# Altium integrated library Altera APEX 20KE.IntLib: 235 symbols (part 2 of 49)
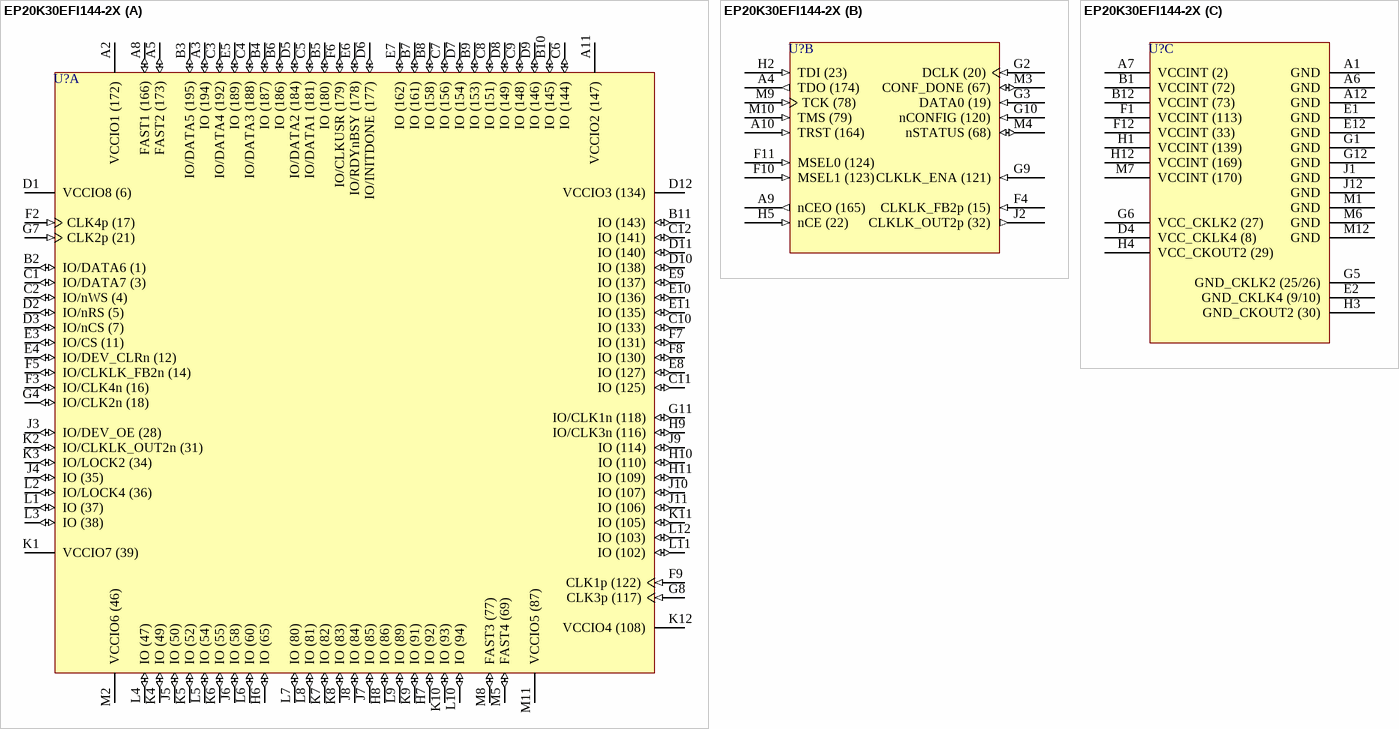
[diagram p400: symbol EP20K30EFI144-2X]

## EP20K30EFI144-2X
designator U?
APEX 20K30E PLD with PLLs and LVDS, 144-Pin FBGA, Industrial Grade, Speed Grade 2; Published: 17-Jul-2002; LatestRevisionDate: 13-Apr-2006; LatestRevisionNote: IPC-7351 Footprint Added.; DatasheetVersion: Mar-2004; PackageVersion: ver14.1, Oct-2005; PackageReference: FBGA144; Publisher: Altium Limited; PackageDescription: 144-Ball FineLine Ball Grid Array (FBGA144); Code_JEDEC: MO-192-AAD-1; Code_IPC: BGA100P12X12-144; ComponentLink1Description: Manufacturer Link; ComponentLink1URL: http://www.altera.com/products/devices/apex/apx-index.html; ComponentLink2Description: Datasheet; ComponentLink2URL: http://www.altera.com/literature/ds/apex.pdf
footprint FBGA144 (BGA, 144-Leads, Body 13x13mm, Pitch 1mm)
3D model EP20K30E-FBGA144 (144-Ball FineLine Ball Grid Array (FBGA144))
part A pins: A2 VCCIO1 (172) (power), A3 IO (194) (io), A5 FAST2 (173) (io), A8 FAST1 (166) (io), A11 VCCIO2 (147) (power), B2 IO/DATA6 (1) (io), B3 IO/DATA5 (195) (io), B4 IO (187) (io), B5 IO (180) (io), B6 IO (186) (io), B7 IO (161) (io), B8 IO (158) (io), B9 IO (153) (io), B10 IO (145) (io), B11 IO (143) (io), C1 IO/DATA7 (3) (io), C2 IO/nWS (4) (io), C3 IO/DATA4 (192) (io), C4 IO/DATA3 (188) (io), C5 IO/DATA1 (181) (io), C6 IO (144) (io), C7 IO (156) (io), C8 IO (151) (io), C9 IO (148) (io), C10 IO (133) (io), C11 IO (125) (io), C12 IO (141) (io), D1 VCCIO8 (6) (power), D2 IO/nRS (5) (io), D3 IO/nCS (7) (io), D5 IO/DATA2 (184) (io), D6 IO/INITDONE (177) (io), D7 IO (154) (io), D8 IO (149) (io), D9 IO (146) (io), D10 IO (138) (io), D11 IO (140) (io), D12 VCCIO3 (134) (power), E3 IO/CS (11) (io), E4 IO/DEV_CLRn (12) (io), E5 IO (189) (io), E6 IO/RDYnBSY (178) (io), E7 IO (162) (io), E8 IO (127) (io), E9 IO (137) (io), E10 IO (136) (io), E11 IO (135) (io), F2 CLK4p (17) (in), F3 IO/CLK4n (16) (io), F5 IO/CLKLK_FB2n (14) (io), F6 IO/CLKUSR (179) (io), F7 IO (131) (io), F8 IO (130) (io), F9 CLK1p (122) (in), G4 IO/CLK2n (18) (io), G7 CLK2p (21) (in), G8 CLK3p (117) (in), G11 IO/CLK1n (118) (io), H6 IO (65) (io), H7 IO (92) (io), H8 IO (86) (io), H9 IO/CLK3n (116) (io), H10 IO (110) (io), H11 IO (109) (io), J3 IO/DEV_OE (28) (io), J4 IO (35) (io), J5 IO (50) (io), J6 IO (58) (io), J7 IO (85) (io), J8 IO (84) (io), J9 IO (114) (io), J10 IO (107) (io), J11 IO (106) (io), K1 VCCIO7 (39) (power), K2 IO/CLKLK_OUT2n (31) (io), K3 IO/LOCK2 (34) (io), K4 IO (49) (io), K5 IO (52) (io), K6 IO (55) (io), K7 IO (82) (io), K8 IO (83) (io), K9 IO (91) (io), K10 IO (93) (io), K11 IO (105) (io), K12 VCCIO4 (108) (power), L1 IO (37) (io), L2 IO/LOCK4 (36) (io), L3 IO (38) (io), L4 IO (47) (io), L5 IO (54) (io), L6 IO (60) (io), L7 IO (80) (io), L8 IO (81) (io), L9 IO (89) (io), L10 IO (94) (io), L11 IO (102) (io), L12 IO (103) (io), M2 VCCIO6 (46) (power), M5 FAST4 (69) (io), M8 FAST3 (77) (io), M11 VCCIO5 (87) (power)
part B pins: A4 TDO (174) (out), A9 nCEO (165) (out), A10 TRST (164) (in), F4 CLKLK_FB2p (15) (in), F10 MSEL1 (123) (in), F11 MSEL0 (124) (in), G2 DCLK (20) (in), G3 DATA0 (19) (in), G9 CLKLK_ENA (121) (in), G10 nCONFIG (120) (in), H2 TDI (23) (in), H5 nCE (22) (in), J2 CLKLK_OUT2p (32) (out), M3 CONF_DONE (67) (io), M4 nSTATUS (68) (io), M9 TCK (78) (in), M10 TMS (79) (in)
part C pins: A1 GND (power), A6 GND (power), A7 VCCINT (2) (power), A12 GND (power), B1 VCCINT (72) (power), B12 VCCINT (73) (power), D4 VCC_CKLK4 (8) (power), E1 GND (power), E2 GND_CKLK4 (9/10) (power), E12 GND (power), F1 VCCINT (113) (power), F12 VCCINT (33) (power), G1 GND (power), G5 GND_CKLK2 (25/26) (power), G6 VCC_CKLK2 (27) (power), G12 GND (power), H1 VCCINT (139) (power), H3 GND_CKOUT2 (30) (power), H4 VCC_CKOUT2 (29) (power), H12 VCCINT (169) (power), J1 GND (power), J12 GND (power), M1 GND (power), M6 GND (power), M7 VCCINT (170) (power), M12 GND (power)

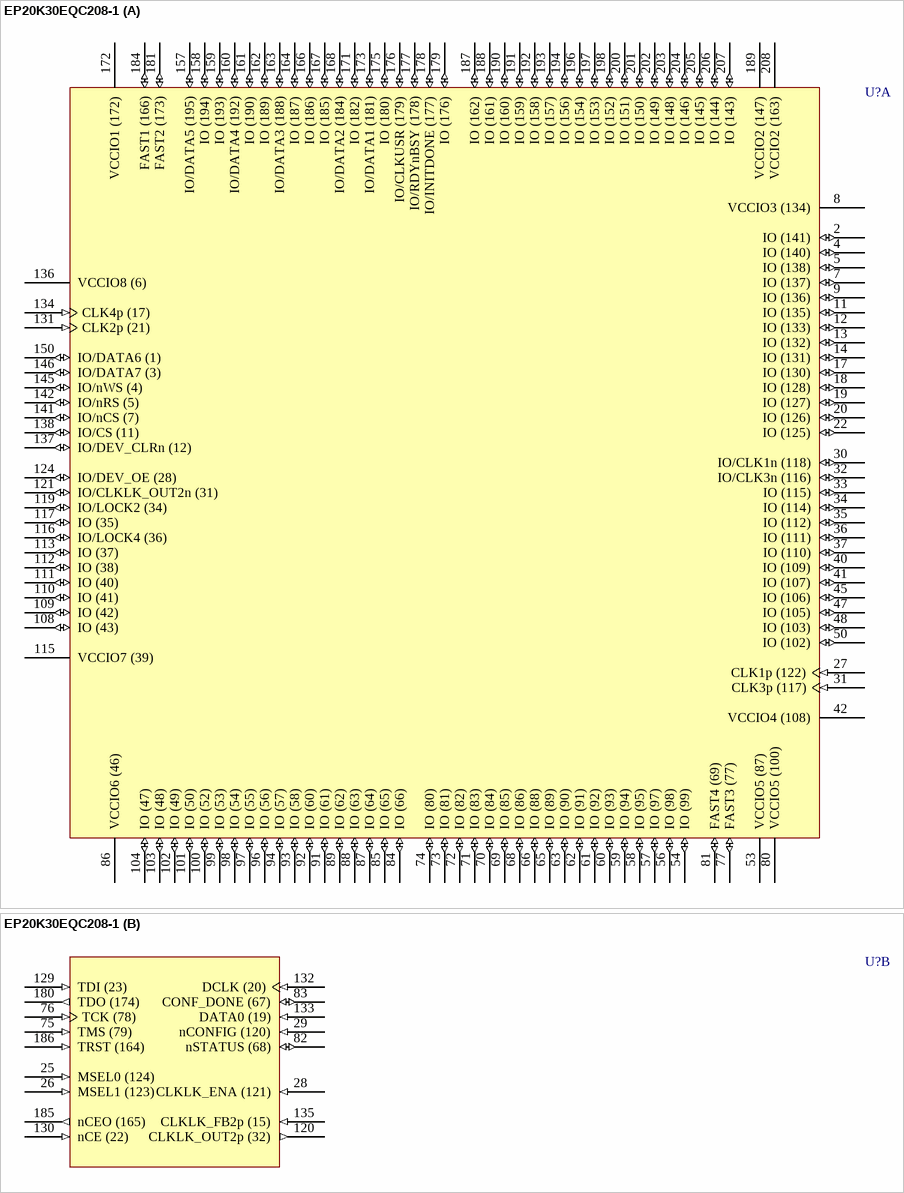
[diagram p14: symbol EP20K30EQC208-1]

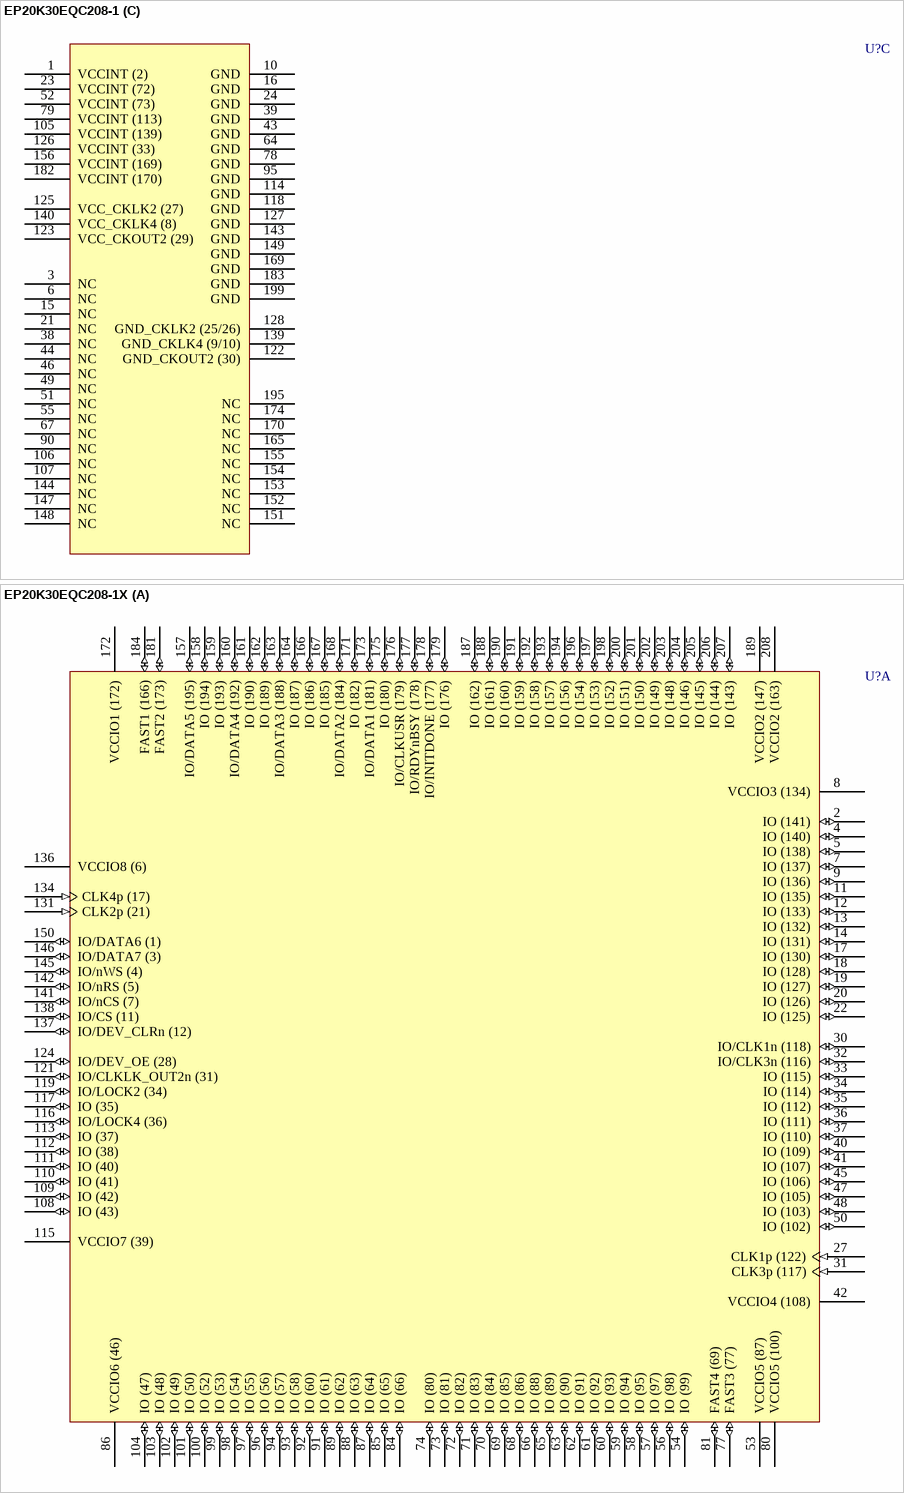
[diagram p15: symbols EP20K30EQC208-1 to EP20K30EQC208-1X]

## EP20K30EQC208-1
designator U?
APEX 20K30E PLD, 208-Pin PQFP, Commercial Grade, Speed Grade 1; Published: 17-Jul-2002; LatestRevisionDate: 13-Apr-2006; LatestRevisionNote: IPC-7351 Footprint Added.; DatasheetVersion: Mar-2004; PackageVersion: ver14.1, Oct-2005; PackageReference: PQFP208; Publisher: Altium Limited; PackageDescription: 208-Pin Plastic Quad Flat Pack (PQFP208); Code_JEDEC: MS-029-FA-1; ComponentLink1Description: Manufacturer Link; ComponentLink1URL: http://www.altera.com/products/devices/apex/apx-index.html; ComponentLink2Description: Datasheet; ComponentLink2URL: http://www.altera.com/literature/ds/apex.pdf; ComponentLink3Description: Discontinuation Notice; ComponentLink3URL: http://www.altera.com/literature/pcn/pdn0316.pdf
footprint PQFP208_N (Shrink QFP, 208-Leads, Body 28x28mm, Pitch 0.5mm, IPC Medium Density)
footprint PQFP208_L (Shrink QFP, 208-Leads, Body 28x28mm, Pitch 0.5mm, IPC High Density)
footprint PQFP208_M (Shrink QFP, 208-Leads, Body 28x28mm, Pitch 0.5mm, IPC Low Density)
3D model EP20K30E-PQFP208 (208-Pin Plastic Quad Flat Pack (PQFP208))
part A pins: 2 IO (141) (io), 4 IO (140) (io), 5 IO (138) (io), 7 IO (137) (io), 8 VCCIO3 (134) (power), 9 IO (136) (io), 11 IO (135) (io), 12 IO (133) (io), 13 IO (132) (io), 14 IO (131) (io), 17 IO (130) (io), 18 IO (128) (io), 19 IO (127) (io), 20 IO (126) (io), 22 IO (125) (io), 27 CLK1p (122) (in), 30 IO/CLK1n (118) (io), 31 CLK3p (117) (in), 32 IO/CLK3n (116) (io), 33 IO (115) (io), 34 IO (114) (io), 35 IO (112) (io), 36 IO (111) (io), 37 IO (110) (io), 40 IO (109) (io), 41 IO (107) (io), 42 VCCIO4 (108) (power), 45 IO (106) (io), 47 IO (105) (io), 48 IO (103) (io), 50 IO (102) (io), 53 VCCIO5 (87) (power), 54 IO (99) (io), 56 IO (98) (io), 57 IO (97) (io), 58 IO (95) (io), 59 IO (94) (io), 60 IO (93) (io), 61 IO (92) (io), 62 IO (91) (io), 63 IO (90) (io), 65 IO (89) (io), 66 IO (88) (io), 68 IO (86) (io), 69 IO (85) (io), 70 IO (84) (io), 71 IO (83) (io), 72 IO (82) (io), 73 IO (81) (io), 74 IO (80) (io), 77 FAST3 (77) (io), 80 VCCIO5 (100) (power), 81 FAST4 (69) (io), 84 IO (66) (io), 85 IO (65) (io), 86 VCCIO6 (46) (power), 87 IO (64) (io), 88 IO (63) (io), 89 IO (62) (io), 91 IO (61) (io), 92 IO (60) (io), 93 IO (58) (io), 94 IO (57) (io), 96 IO (56) (io), 97 IO (55) (io), 98 IO (54) (io), 99 IO (53) (io), 100 IO (52) (io), 101 IO (50) (io), 102 IO (49) (io), 103 IO (48) (io), 104 IO (47) (io), 108 IO (43) (io), 109 IO (42) (io), 110 IO (41) (io), 111 IO (40) (io), 112 IO (38) (io), 113 IO (37) (io), 115 VCCIO7 (39) (power), 116 IO/LOCK4 (36) (io), 117 IO (35) (io), 119 IO/LOCK2 (34) (io), 121 IO/CLKLK_OUT2n (31) (io), 124 IO/DEV_OE (28) (io), 131 CLK2p (21) (in), 134 CLK4p (17) (in), 136 VCCIO8 (6) (power), 137 IO/DEV_CLRn (12) (io), 138 IO/CS (11) (io), 141 IO/nCS (7) (io), 142 IO/nRS (5) (io), 145 IO/nWS (4) (io), 146 IO/DATA7 (3) (io), 150 IO/DATA6 (1) (io), 157 IO/DATA5 (195) (io), 158 IO (194) (io), 159 IO (193) (io), 160 IO/DATA4 (192) (io), 161 IO (190) (io), 162 IO (189) (io), 163 IO/DATA3 (188) (io), 164 IO (187) (io), 166 IO (186) (io), 167 IO (185) (io), 168 IO/DATA2 (184) (io), 171 IO (182) (io), 172 VCCIO1 (172) (power), 173 IO/DATA1 (181) (io), 175 IO (180) (io), 176 IO/CLKUSR (179) (io), 177 IO/RDYnBSY (178) (io), 178 IO/INITDONE (177) (io), 179 IO (176) (io), 181 FAST2 (173) (io), 184 FAST1 (166) (io), 187 IO (162) (io), 188 IO (161) (io), 189 VCCIO2 (147) (power), 190 IO (160) (io), 191 IO (159) (io), 192 IO (158) (io), 193 IO (157) (io), 194 IO (156) (io), 196 IO (154) (io), 197 IO (153) (io), 198 IO (152) (io), 200 IO (151) (io), 201 IO (150) (io), 202 IO (149) (io), 203 IO (148) (io), 204 IO (146) (io), 205 IO (145) (io), 206 IO (144) (io), 207 IO (143) (io), 208 VCCIO2 (163) (power)
part B pins: 25 MSEL0 (124) (in), 26 MSEL1 (123) (in), 28 CLKLK_ENA (121) (in), 29 nCONFIG (120) (in), 75 TMS (79) (in), 76 TCK (78) (in), 82 nSTATUS (68) (io), 83 CONF_DONE (67) (io), 120 CLKLK_OUT2p (32) (out), 129 TDI (23) (in), 130 nCE (22) (in), 132 DCLK (20) (in), 133 DATA0 (19) (in), 135 CLKLK_FB2p (15) (in), 180 TDO (174) (out), 185 nCEO (165) (out), 186 TRST (164) (in)
part C pins: 1 VCCINT (2) (power), 3 NC, 6 NC, 10 GND (power), 15 NC, 16 GND (power), 21 NC, 23 VCCINT (72) (power), 24 GND (power), 38 NC, 39 GND (power), 43 GND (power), 44 NC, 46 NC, 49 NC, 51 NC, 52 VCCINT (73) (power), 55 NC, 64 GND (power), 67 NC, 78 GND (power), 79 VCCINT (113) (power), 90 NC, 95 GND (power), 105 VCCINT (139) (power), 106 NC, 107 NC, 114 GND (power), 118 GND (power), 122 GND_CKOUT2 (30) (power), 123 VCC_CKOUT2 (29) (power), 125 VCC_CKLK2 (27) (power), 126 VCCINT (33) (power), 127 GND (power), 128 GND_CKLK2 (25/26) (power), 139 GND_CKLK4 (9/10) (power), 140 VCC_CKLK4 (8) (power), 143 GND (power), 144 NC, 147 NC, 148 NC, 149 GND (power), 151 NC, 152 NC, 153 NC, 154 NC, 155 NC, 156 VCCINT (169) (power), 165 NC, 169 GND (power), 170 NC, 174 NC, 182 VCCINT (170) (power), 183 GND (power), 195 NC, 199 GND (power)

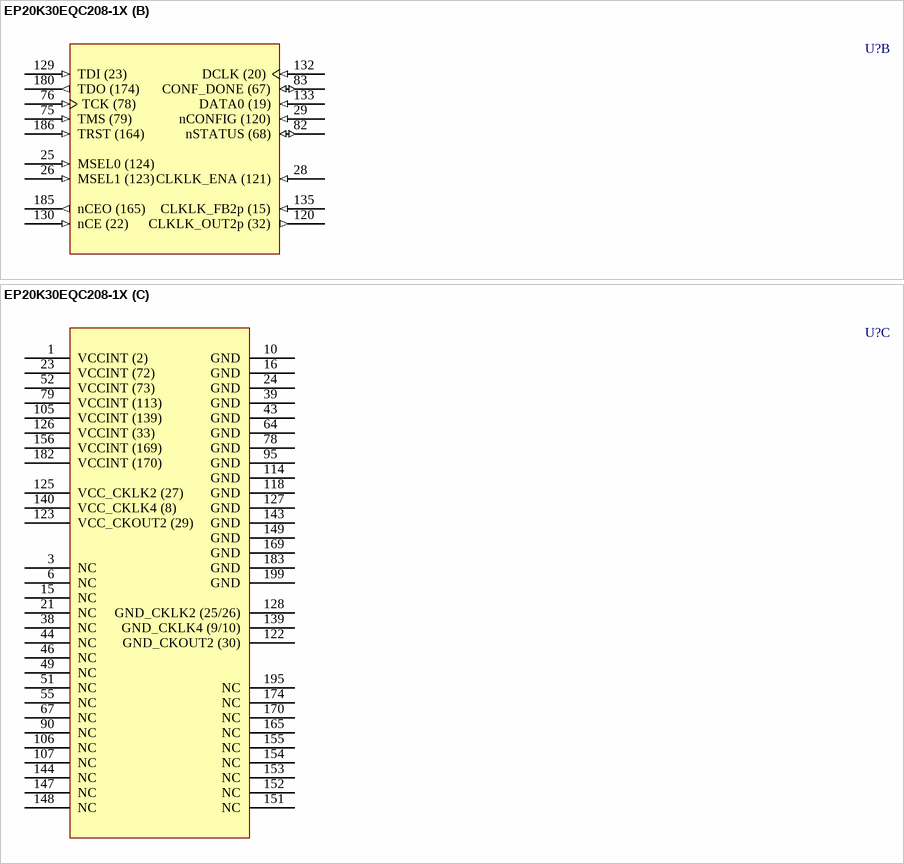
[diagram p16: symbol EP20K30EQC208-1X]

## EP20K30EQC208-1X
designator U?
APEX 20K30E PLD with PLLs and LVDS, 208-Pin PQFP, Commercial Grade, Speed Grade 1; Published: 17-Jul-2002; LatestRevisionDate: 13-Apr-2006; LatestRevisionNote: IPC-7351 Footprint Added.; DatasheetVersion: Mar-2004; PackageVersion: ver14.1, Oct-2005; PackageReference: PQFP208; Publisher: Altium Limited; PackageDescription: 208-Pin Plastic Quad Flat Pack (PQFP208); Code_JEDEC: MS-029-FA-1; ComponentLink1Description: Manufacturer Link; ComponentLink1URL: http://www.altera.com/products/devices/apex/apx-index.html; ComponentLink2Description: Datasheet; ComponentLink2URL: http://www.altera.com/literature/ds/apex.pdf; ComponentLink3Description: Discontinuation Notice; ComponentLink3URL: http://www.altera.com/literature/pcn/pdn0316.pdf
footprint PQFP208_N (Shrink QFP, 208-Leads, Body 28x28mm, Pitch 0.5mm, IPC Medium Density)
footprint PQFP208_L (Shrink QFP, 208-Leads, Body 28x28mm, Pitch 0.5mm, IPC High Density)
footprint PQFP208_M (Shrink QFP, 208-Leads, Body 28x28mm, Pitch 0.5mm, IPC Low Density)
3D model EP20K30E-PQFP208 (208-Pin Plastic Quad Flat Pack (PQFP208))
part A pins: 2 IO (141) (io), 4 IO (140) (io), 5 IO (138) (io), 7 IO (137) (io), 8 VCCIO3 (134) (power), 9 IO (136) (io), 11 IO (135) (io), 12 IO (133) (io), 13 IO (132) (io), 14 IO (131) (io), 17 IO (130) (io), 18 IO (128) (io), 19 IO (127) (io), 20 IO (126) (io), 22 IO (125) (io), 27 CLK1p (122) (in), 30 IO/CLK1n (118) (io), 31 CLK3p (117) (in), 32 IO/CLK3n (116) (io), 33 IO (115) (io), 34 IO (114) (io), 35 IO (112) (io), 36 IO (111) (io), 37 IO (110) (io), 40 IO (109) (io), 41 IO (107) (io), 42 VCCIO4 (108) (power), 45 IO (106) (io), 47 IO (105) (io), 48 IO (103) (io), 50 IO (102) (io), 53 VCCIO5 (87) (power), 54 IO (99) (io), 56 IO (98) (io), 57 IO (97) (io), 58 IO (95) (io), 59 IO (94) (io), 60 IO (93) (io), 61 IO (92) (io), 62 IO (91) (io), 63 IO (90) (io), 65 IO (89) (io), 66 IO (88) (io), 68 IO (86) (io), 69 IO (85) (io), 70 IO (84) (io), 71 IO (83) (io), 72 IO (82) (io), 73 IO (81) (io), 74 IO (80) (io), 77 FAST3 (77) (io), 80 VCCIO5 (100) (power), 81 FAST4 (69) (io), 84 IO (66) (io), 85 IO (65) (io), 86 VCCIO6 (46) (power), 87 IO (64) (io), 88 IO (63) (io), 89 IO (62) (io), 91 IO (61) (io), 92 IO (60) (io), 93 IO (58) (io), 94 IO (57) (io), 96 IO (56) (io), 97 IO (55) (io), 98 IO (54) (io), 99 IO (53) (io), 100 IO (52) (io), 101 IO (50) (io), 102 IO (49) (io), 103 IO (48) (io), 104 IO (47) (io), 108 IO (43) (io), 109 IO (42) (io), 110 IO (41) (io), 111 IO (40) (io), 112 IO (38) (io), 113 IO (37) (io), 115 VCCIO7 (39) (power), 116 IO/LOCK4 (36) (io), 117 IO (35) (io), 119 IO/LOCK2 (34) (io), 121 IO/CLKLK_OUT2n (31) (io), 124 IO/DEV_OE (28) (io), 131 CLK2p (21) (in), 134 CLK4p (17) (in), 136 VCCIO8 (6) (power), 137 IO/DEV_CLRn (12) (io), 138 IO/CS (11) (io), 141 IO/nCS (7) (io), 142 IO/nRS (5) (io), 145 IO/nWS (4) (io), 146 IO/DATA7 (3) (io), 150 IO/DATA6 (1) (io), 157 IO/DATA5 (195) (io), 158 IO (194) (io), 159 IO (193) (io), 160 IO/DATA4 (192) (io), 161 IO (190) (io), 162 IO (189) (io), 163 IO/DATA3 (188) (io), 164 IO (187) (io), 166 IO (186) (io), 167 IO (185) (io), 168 IO/DATA2 (184) (io), 171 IO (182) (io), 172 VCCIO1 (172) (power), 173 IO/DATA1 (181) (io), 175 IO (180) (io), 176 IO/CLKUSR (179) (io), 177 IO/RDYnBSY (178) (io), 178 IO/INITDONE (177) (io), 179 IO (176) (io), 181 FAST2 (173) (io), 184 FAST1 (166) (io), 187 IO (162) (io), 188 IO (161) (io), 189 VCCIO2 (147) (power), 190 IO (160) (io), 191 IO (159) (io), 192 IO (158) (io), 193 IO (157) (io), 194 IO (156) (io), 196 IO (154) (io), 197 IO (153) (io), 198 IO (152) (io), 200 IO (151) (io), 201 IO (150) (io), 202 IO (149) (io), 203 IO (148) (io), 204 IO (146) (io), 205 IO (145) (io), 206 IO (144) (io), 207 IO (143) (io), 208 VCCIO2 (163) (power)
part B pins: 25 MSEL0 (124) (in), 26 MSEL1 (123) (in), 28 CLKLK_ENA (121) (in), 29 nCONFIG (120) (in), 75 TMS (79) (in), 76 TCK (78) (in), 82 nSTATUS (68) (io), 83 CONF_DONE (67) (io), 120 CLKLK_OUT2p (32) (out), 129 TDI (23) (in), 130 nCE (22) (in), 132 DCLK (20) (in), 133 DATA0 (19) (in), 135 CLKLK_FB2p (15) (in), 180 TDO (174) (out), 185 nCEO (165) (out), 186 TRST (164) (in)
part C pins: 1 VCCINT (2) (power), 3 NC, 6 NC, 10 GND (power), 15 NC, 16 GND (power), 21 NC, 23 VCCINT (72) (power), 24 GND (power), 38 NC, 39 GND (power), 43 GND (power), 44 NC, 46 NC, 49 NC, 51 NC, 52 VCCINT (73) (power), 55 NC, 64 GND (power), 67 NC, 78 GND (power), 79 VCCINT (113) (power), 90 NC, 95 GND (power), 105 VCCINT (139) (power), 106 NC, 107 NC, 114 GND (power), 118 GND (power), 122 GND_CKOUT2 (30) (power), 123 VCC_CKOUT2 (29) (power), 125 VCC_CKLK2 (27) (power), 126 VCCINT (33) (power), 127 GND (power), 128 GND_CKLK2 (25/26) (power), 139 GND_CKLK4 (9/10) (power), 140 VCC_CKLK4 (8) (power), 143 GND (power), 144 NC, 147 NC, 148 NC, 149 GND (power), 151 NC, 152 NC, 153 NC, 154 NC, 155 NC, 156 VCCINT (169) (power), 165 NC, 169 GND (power), 170 NC, 174 NC, 182 VCCINT (170) (power), 183 GND (power), 195 NC, 199 GND (power)

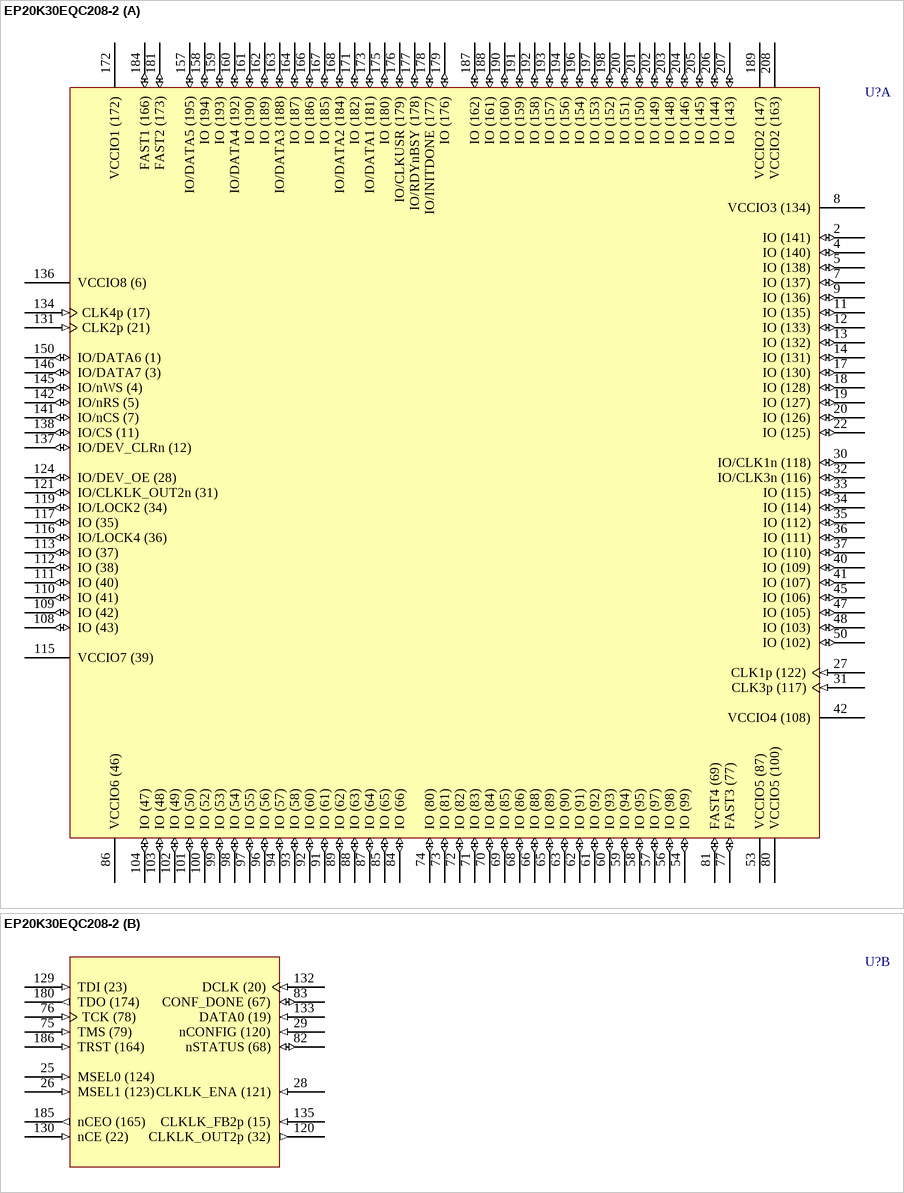
[diagram p17: symbol EP20K30EQC208-2]

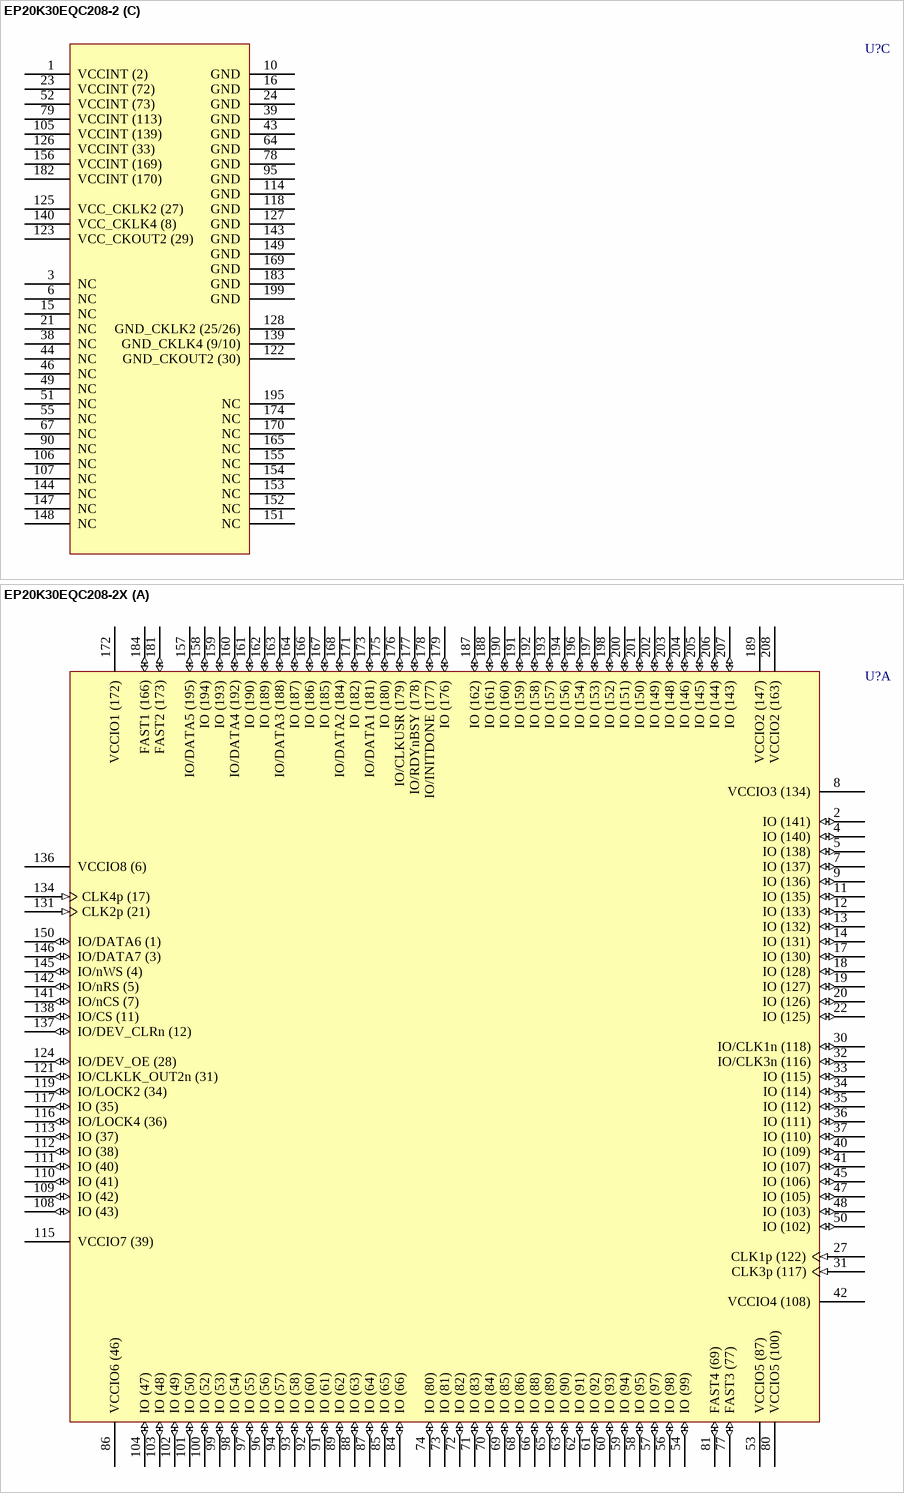
[diagram p18: symbols EP20K30EQC208-2 to EP20K30EQC208-2X]

## EP20K30EQC208-2
designator U?
APEX 20K30E PLD, 208-Pin PQFP, Commercial Grade, Speed Grade 2; Published: 17-Jul-2002; LatestRevisionDate: 13-Apr-2006; LatestRevisionNote: IPC-7351 Footprint Added.; DatasheetVersion: Mar-2004; PackageVersion: ver14.1, Oct-2005; PackageReference: PQFP208; Publisher: Altium Limited; PackageDescription: 208-Pin Plastic Quad Flat Pack (PQFP208); Code_JEDEC: MS-029-FA-1; ComponentLink1Description: Manufacturer Link; ComponentLink1URL: http://www.altera.com/products/devices/apex/apx-index.html; ComponentLink2Description: Datasheet; ComponentLink2URL: http://www.altera.com/literature/ds/apex.pdf; ComponentLink3Description: Discontinuation Notice; ComponentLink3URL: http://www.altera.com/literature/pcn/pdn0316.pdf
footprint PQFP208_N (Shrink QFP, 208-Leads, Body 28x28mm, Pitch 0.5mm, IPC Medium Density)
footprint PQFP208_L (Shrink QFP, 208-Leads, Body 28x28mm, Pitch 0.5mm, IPC High Density)
footprint PQFP208_M (Shrink QFP, 208-Leads, Body 28x28mm, Pitch 0.5mm, IPC Low Density)
3D model EP20K30E-PQFP208 (208-Pin Plastic Quad Flat Pack (PQFP208))
part A pins: 2 IO (141) (io), 4 IO (140) (io), 5 IO (138) (io), 7 IO (137) (io), 8 VCCIO3 (134) (power), 9 IO (136) (io), 11 IO (135) (io), 12 IO (133) (io), 13 IO (132) (io), 14 IO (131) (io), 17 IO (130) (io), 18 IO (128) (io), 19 IO (127) (io), 20 IO (126) (io), 22 IO (125) (io), 27 CLK1p (122) (in), 30 IO/CLK1n (118) (io), 31 CLK3p (117) (in), 32 IO/CLK3n (116) (io), 33 IO (115) (io), 34 IO (114) (io), 35 IO (112) (io), 36 IO (111) (io), 37 IO (110) (io), 40 IO (109) (io), 41 IO (107) (io), 42 VCCIO4 (108) (power), 45 IO (106) (io), 47 IO (105) (io), 48 IO (103) (io), 50 IO (102) (io), 53 VCCIO5 (87) (power), 54 IO (99) (io), 56 IO (98) (io), 57 IO (97) (io), 58 IO (95) (io), 59 IO (94) (io), 60 IO (93) (io), 61 IO (92) (io), 62 IO (91) (io), 63 IO (90) (io), 65 IO (89) (io), 66 IO (88) (io), 68 IO (86) (io), 69 IO (85) (io), 70 IO (84) (io), 71 IO (83) (io), 72 IO (82) (io), 73 IO (81) (io), 74 IO (80) (io), 77 FAST3 (77) (io), 80 VCCIO5 (100) (power), 81 FAST4 (69) (io), 84 IO (66) (io), 85 IO (65) (io), 86 VCCIO6 (46) (power), 87 IO (64) (io), 88 IO (63) (io), 89 IO (62) (io), 91 IO (61) (io), 92 IO (60) (io), 93 IO (58) (io), 94 IO (57) (io), 96 IO (56) (io), 97 IO (55) (io), 98 IO (54) (io), 99 IO (53) (io), 100 IO (52) (io), 101 IO (50) (io), 102 IO (49) (io), 103 IO (48) (io), 104 IO (47) (io), 108 IO (43) (io), 109 IO (42) (io), 110 IO (41) (io), 111 IO (40) (io), 112 IO (38) (io), 113 IO (37) (io), 115 VCCIO7 (39) (power), 116 IO/LOCK4 (36) (io), 117 IO (35) (io), 119 IO/LOCK2 (34) (io), 121 IO/CLKLK_OUT2n (31) (io), 124 IO/DEV_OE (28) (io), 131 CLK2p (21) (in), 134 CLK4p (17) (in), 136 VCCIO8 (6) (power), 137 IO/DEV_CLRn (12) (io), 138 IO/CS (11) (io), 141 IO/nCS (7) (io), 142 IO/nRS (5) (io), 145 IO/nWS (4) (io), 146 IO/DATA7 (3) (io), 150 IO/DATA6 (1) (io), 157 IO/DATA5 (195) (io), 158 IO (194) (io), 159 IO (193) (io), 160 IO/DATA4 (192) (io), 161 IO (190) (io), 162 IO (189) (io), 163 IO/DATA3 (188) (io), 164 IO (187) (io), 166 IO (186) (io), 167 IO (185) (io), 168 IO/DATA2 (184) (io), 171 IO (182) (io), 172 VCCIO1 (172) (power), 173 IO/DATA1 (181) (io), 175 IO (180) (io), 176 IO/CLKUSR (179) (io), 177 IO/RDYnBSY (178) (io), 178 IO/INITDONE (177) (io), 179 IO (176) (io), 181 FAST2 (173) (io), 184 FAST1 (166) (io), 187 IO (162) (io), 188 IO (161) (io), 189 VCCIO2 (147) (power), 190 IO (160) (io), 191 IO (159) (io), 192 IO (158) (io), 193 IO (157) (io), 194 IO (156) (io), 196 IO (154) (io), 197 IO (153) (io), 198 IO (152) (io), 200 IO (151) (io), 201 IO (150) (io), 202 IO (149) (io), 203 IO (148) (io), 204 IO (146) (io), 205 IO (145) (io), 206 IO (144) (io), 207 IO (143) (io), 208 VCCIO2 (163) (power)
part B pins: 25 MSEL0 (124) (in), 26 MSEL1 (123) (in), 28 CLKLK_ENA (121) (in), 29 nCONFIG (120) (in), 75 TMS (79) (in), 76 TCK (78) (in), 82 nSTATUS (68) (io), 83 CONF_DONE (67) (io), 120 CLKLK_OUT2p (32) (out), 129 TDI (23) (in), 130 nCE (22) (in), 132 DCLK (20) (in), 133 DATA0 (19) (in), 135 CLKLK_FB2p (15) (in), 180 TDO (174) (out), 185 nCEO (165) (out), 186 TRST (164) (in)
part C pins: 1 VCCINT (2) (power), 3 NC, 6 NC, 10 GND (power), 15 NC, 16 GND (power), 21 NC, 23 VCCINT (72) (power), 24 GND (power), 38 NC, 39 GND (power), 43 GND (power), 44 NC, 46 NC, 49 NC, 51 NC, 52 VCCINT (73) (power), 55 NC, 64 GND (power), 67 NC, 78 GND (power), 79 VCCINT (113) (power), 90 NC, 95 GND (power), 105 VCCINT (139) (power), 106 NC, 107 NC, 114 GND (power), 118 GND (power), 122 GND_CKOUT2 (30) (power), 123 VCC_CKOUT2 (29) (power), 125 VCC_CKLK2 (27) (power), 126 VCCINT (33) (power), 127 GND (power), 128 GND_CKLK2 (25/26) (power), 139 GND_CKLK4 (9/10) (power), 140 VCC_CKLK4 (8) (power), 143 GND (power), 144 NC, 147 NC, 148 NC, 149 GND (power), 151 NC, 152 NC, 153 NC, 154 NC, 155 NC, 156 VCCINT (169) (power), 165 NC, 169 GND (power), 170 NC, 174 NC, 182 VCCINT (170) (power), 183 GND (power), 195 NC, 199 GND (power)

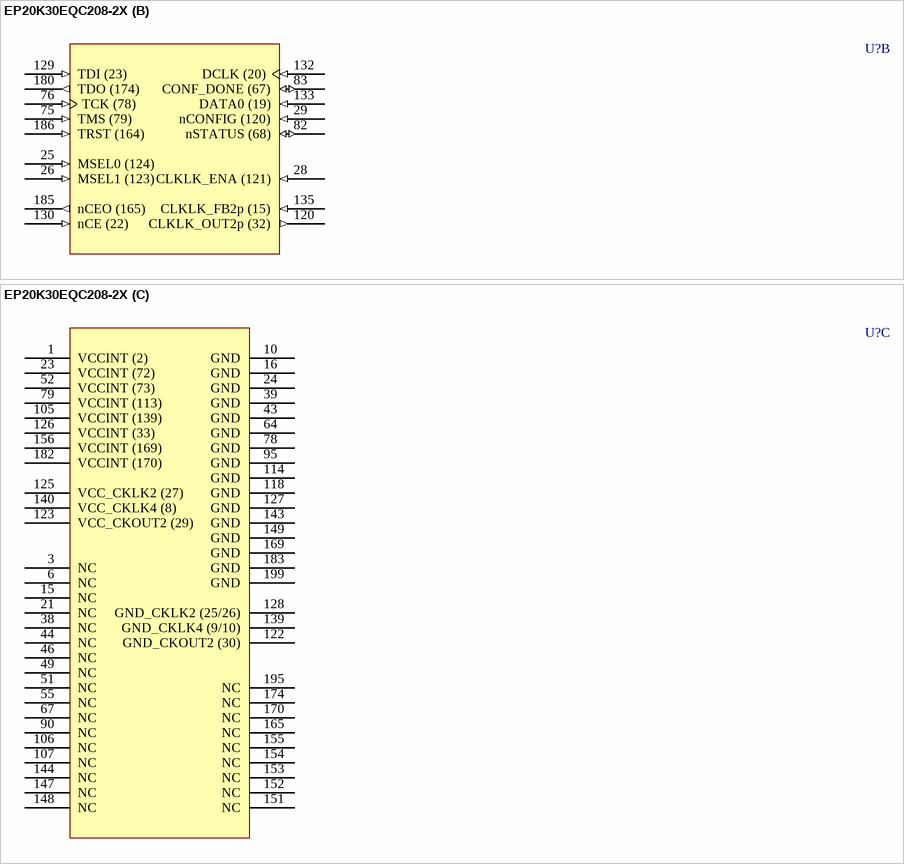
[diagram p19: symbol EP20K30EQC208-2X]

## EP20K30EQC208-2X
designator U?
APEX 20K30E PLD with PLLs and LVDS, 208-Pin PQFP, Commercial Grade, Speed Grade 2; Published: 17-Jul-2002; LatestRevisionDate: 13-Apr-2006; LatestRevisionNote: IPC-7351 Footprint Added.; DatasheetVersion: Mar-2004; PackageVersion: ver14.1, Oct-2005; PackageReference: PQFP208; Publisher: Altium Limited; PackageDescription: 208-Pin Plastic Quad Flat Pack (PQFP208); Code_JEDEC: MS-029-FA-1; ComponentLink1Description: Manufacturer Link; ComponentLink1URL: http://www.altera.com/products/devices/apex/apx-index.html; ComponentLink2Description: Datasheet; ComponentLink2URL: http://www.altera.com/literature/ds/apex.pdf; ComponentLink3Description: Discontinuation Notice; ComponentLink3URL: http://www.altera.com/literature/pcn/pdn0316.pdf
footprint PQFP208_N (Shrink QFP, 208-Leads, Body 28x28mm, Pitch 0.5mm, IPC Medium Density)
footprint PQFP208_L (Shrink QFP, 208-Leads, Body 28x28mm, Pitch 0.5mm, IPC High Density)
footprint PQFP208_M (Shrink QFP, 208-Leads, Body 28x28mm, Pitch 0.5mm, IPC Low Density)
3D model EP20K30E-PQFP208 (208-Pin Plastic Quad Flat Pack (PQFP208))
part A pins: 2 IO (141) (io), 4 IO (140) (io), 5 IO (138) (io), 7 IO (137) (io), 8 VCCIO3 (134) (power), 9 IO (136) (io), 11 IO (135) (io), 12 IO (133) (io), 13 IO (132) (io), 14 IO (131) (io), 17 IO (130) (io), 18 IO (128) (io), 19 IO (127) (io), 20 IO (126) (io), 22 IO (125) (io), 27 CLK1p (122) (in), 30 IO/CLK1n (118) (io), 31 CLK3p (117) (in), 32 IO/CLK3n (116) (io), 33 IO (115) (io), 34 IO (114) (io), 35 IO (112) (io), 36 IO (111) (io), 37 IO (110) (io), 40 IO (109) (io), 41 IO (107) (io), 42 VCCIO4 (108) (power), 45 IO (106) (io), 47 IO (105) (io), 48 IO (103) (io), 50 IO (102) (io), 53 VCCIO5 (87) (power), 54 IO (99) (io), 56 IO (98) (io), 57 IO (97) (io), 58 IO (95) (io), 59 IO (94) (io), 60 IO (93) (io), 61 IO (92) (io), 62 IO (91) (io), 63 IO (90) (io), 65 IO (89) (io), 66 IO (88) (io), 68 IO (86) (io), 69 IO (85) (io), 70 IO (84) (io), 71 IO (83) (io), 72 IO (82) (io), 73 IO (81) (io), 74 IO (80) (io), 77 FAST3 (77) (io), 80 VCCIO5 (100) (power), 81 FAST4 (69) (io), 84 IO (66) (io), 85 IO (65) (io), 86 VCCIO6 (46) (power), 87 IO (64) (io), 88 IO (63) (io), 89 IO (62) (io), 91 IO (61) (io), 92 IO (60) (io), 93 IO (58) (io), 94 IO (57) (io), 96 IO (56) (io), 97 IO (55) (io), 98 IO (54) (io), 99 IO (53) (io), 100 IO (52) (io), 101 IO (50) (io), 102 IO (49) (io), 103 IO (48) (io), 104 IO (47) (io), 108 IO (43) (io), 109 IO (42) (io), 110 IO (41) (io), 111 IO (40) (io), 112 IO (38) (io), 113 IO (37) (io), 115 VCCIO7 (39) (power), 116 IO/LOCK4 (36) (io), 117 IO (35) (io), 119 IO/LOCK2 (34) (io), 121 IO/CLKLK_OUT2n (31) (io), 124 IO/DEV_OE (28) (io), 131 CLK2p (21) (in), 134 CLK4p (17) (in), 136 VCCIO8 (6) (power), 137 IO/DEV_CLRn (12) (io), 138 IO/CS (11) (io), 141 IO/nCS (7) (io), 142 IO/nRS (5) (io), 145 IO/nWS (4) (io), 146 IO/DATA7 (3) (io), 150 IO/DATA6 (1) (io), 157 IO/DATA5 (195) (io), 158 IO (194) (io), 159 IO (193) (io), 160 IO/DATA4 (192) (io), 161 IO (190) (io), 162 IO (189) (io), 163 IO/DATA3 (188) (io), 164 IO (187) (io), 166 IO (186) (io), 167 IO (185) (io), 168 IO/DATA2 (184) (io), 171 IO (182) (io), 172 VCCIO1 (172) (power), 173 IO/DATA1 (181) (io), 175 IO (180) (io), 176 IO/CLKUSR (179) (io), 177 IO/RDYnBSY (178) (io), 178 IO/INITDONE (177) (io), 179 IO (176) (io), 181 FAST2 (173) (io), 184 FAST1 (166) (io), 187 IO (162) (io), 188 IO (161) (io), 189 VCCIO2 (147) (power), 190 IO (160) (io), 191 IO (159) (io), 192 IO (158) (io), 193 IO (157) (io), 194 IO (156) (io), 196 IO (154) (io), 197 IO (153) (io), 198 IO (152) (io), 200 IO (151) (io), 201 IO (150) (io), 202 IO (149) (io), 203 IO (148) (io), 204 IO (146) (io), 205 IO (145) (io), 206 IO (144) (io), 207 IO (143) (io), 208 VCCIO2 (163) (power)
part B pins: 25 MSEL0 (124) (in), 26 MSEL1 (123) (in), 28 CLKLK_ENA (121) (in), 29 nCONFIG (120) (in), 75 TMS (79) (in), 76 TCK (78) (in), 82 nSTATUS (68) (io), 83 CONF_DONE (67) (io), 120 CLKLK_OUT2p (32) (out), 129 TDI (23) (in), 130 nCE (22) (in), 132 DCLK (20) (in), 133 DATA0 (19) (in), 135 CLKLK_FB2p (15) (in), 180 TDO (174) (out), 185 nCEO (165) (out), 186 TRST (164) (in)
part C pins: 1 VCCINT (2) (power), 3 NC, 6 NC, 10 GND (power), 15 NC, 16 GND (power), 21 NC, 23 VCCINT (72) (power), 24 GND (power), 38 NC, 39 GND (power), 43 GND (power), 44 NC, 46 NC, 49 NC, 51 NC, 52 VCCINT (73) (power), 55 NC, 64 GND (power), 67 NC, 78 GND (power), 79 VCCINT (113) (power), 90 NC, 95 GND (power), 105 VCCINT (139) (power), 106 NC, 107 NC, 114 GND (power), 118 GND (power), 122 GND_CKOUT2 (30) (power), 123 VCC_CKOUT2 (29) (power), 125 VCC_CKLK2 (27) (power), 126 VCCINT (33) (power), 127 GND (power), 128 GND_CKLK2 (25/26) (power), 139 GND_CKLK4 (9/10) (power), 140 VCC_CKLK4 (8) (power), 143 GND (power), 144 NC, 147 NC, 148 NC, 149 GND (power), 151 NC, 152 NC, 153 NC, 154 NC, 155 NC, 156 VCCINT (169) (power), 165 NC, 169 GND (power), 170 NC, 174 NC, 182 VCCINT (170) (power), 183 GND (power), 195 NC, 199 GND (power)

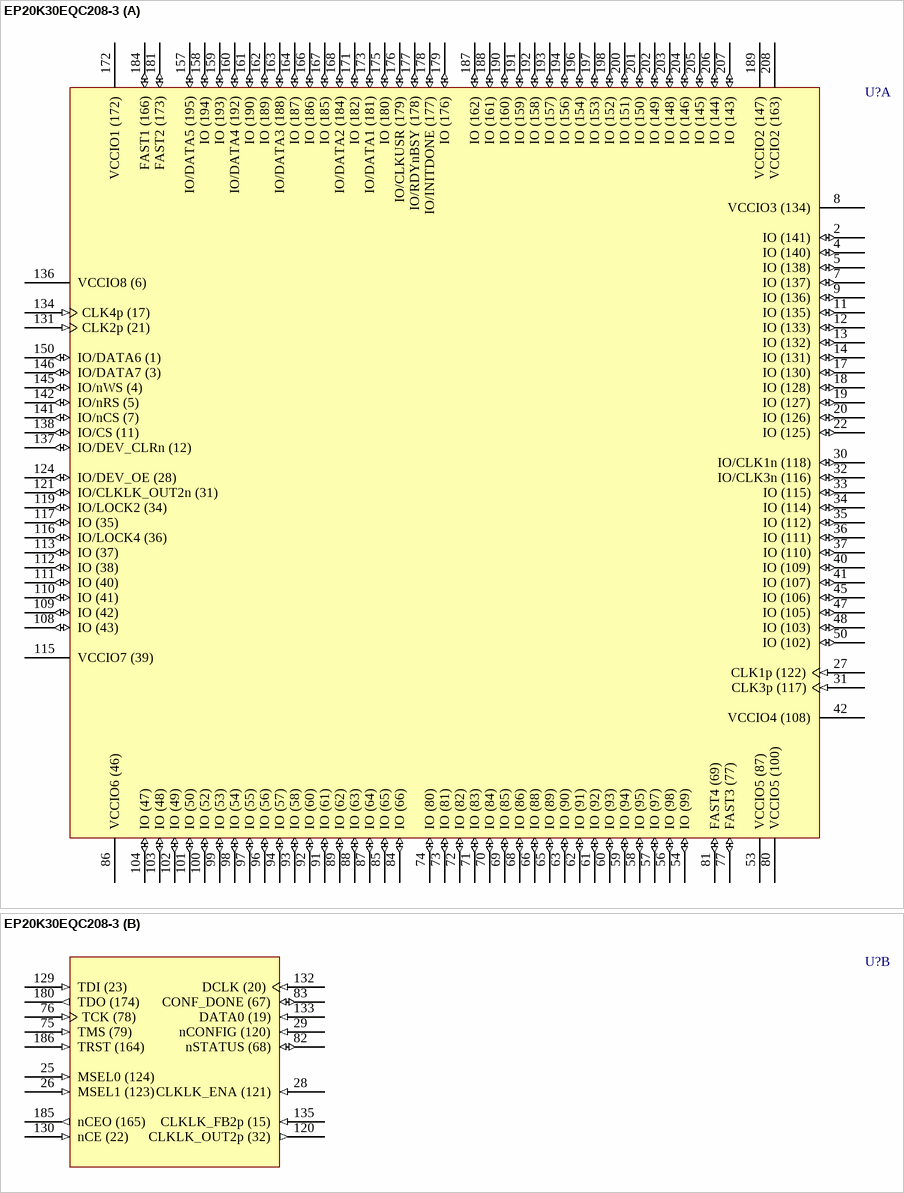
[diagram p20: symbol EP20K30EQC208-3]

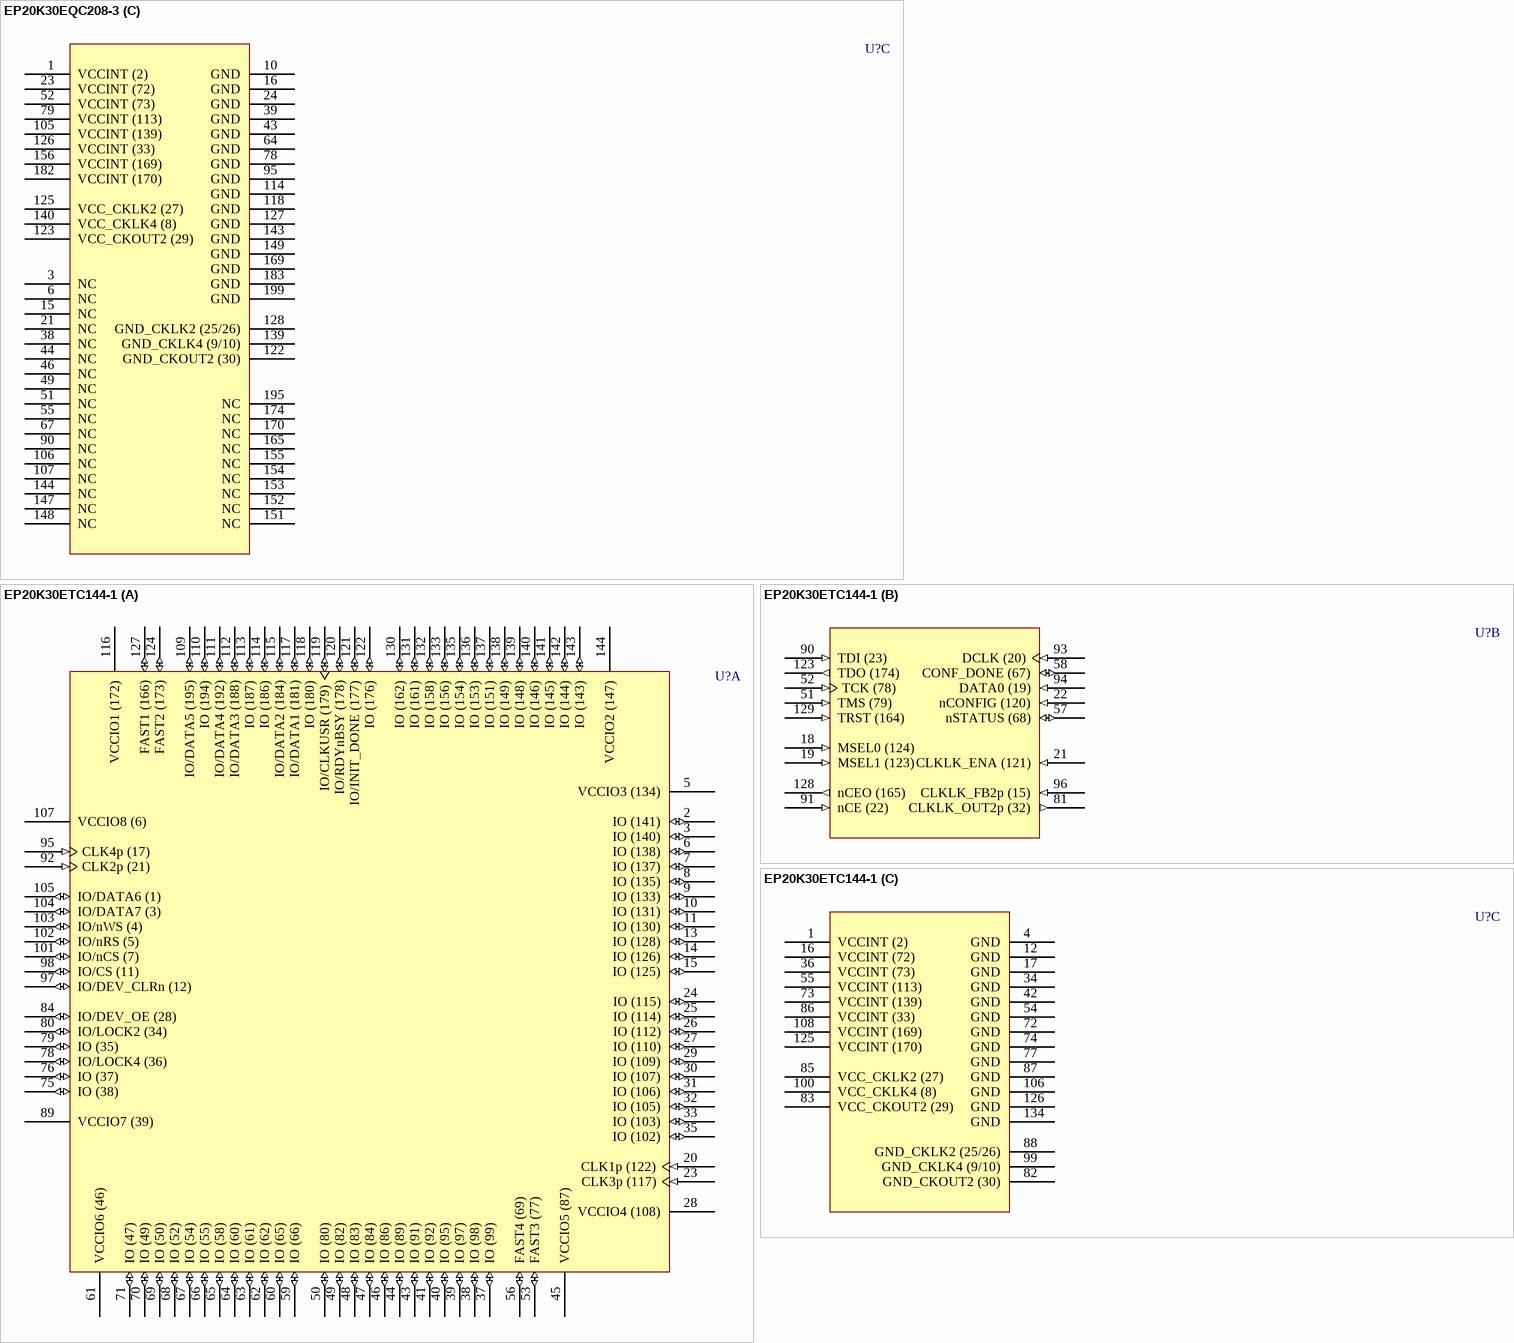
[diagram p21: symbols EP20K30EQC208-3 to EP20K30ETC144-1]

## EP20K30EQC208-3
designator U?
APEX 20K30E PLD, 208-Pin PQFP, Commercial Grade, Speed Grade 3; Published: 17-Jul-2002; LatestRevisionDate: 13-Apr-2006; LatestRevisionNote: IPC-7351 Footprint Added.; DatasheetVersion: Mar-2004; PackageVersion: ver14.1, Oct-2005; PackageReference: PQFP208; Publisher: Altium Limited; PackageDescription: 208-Pin Plastic Quad Flat Pack (PQFP208); Code_JEDEC: MS-029-FA-1; ComponentLink1Description: Manufacturer Link; ComponentLink1URL: http://www.altera.com/products/devices/apex/apx-index.html; ComponentLink2Description: Datasheet; ComponentLink2URL: http://www.altera.com/literature/ds/apex.pdf; ComponentLink3Description: Discontinuation Notice; ComponentLink3URL: http://www.altera.com/literature/pcn/pdn0316.pdf
footprint PQFP208_N (Shrink QFP, 208-Leads, Body 28x28mm, Pitch 0.5mm, IPC Medium Density)
footprint PQFP208_L (Shrink QFP, 208-Leads, Body 28x28mm, Pitch 0.5mm, IPC High Density)
footprint PQFP208_M (Shrink QFP, 208-Leads, Body 28x28mm, Pitch 0.5mm, IPC Low Density)
3D model EP20K30E-PQFP208 (208-Pin Plastic Quad Flat Pack (PQFP208))
part A pins: 2 IO (141) (io), 4 IO (140) (io), 5 IO (138) (io), 7 IO (137) (io), 8 VCCIO3 (134) (power), 9 IO (136) (io), 11 IO (135) (io), 12 IO (133) (io), 13 IO (132) (io), 14 IO (131) (io), 17 IO (130) (io), 18 IO (128) (io), 19 IO (127) (io), 20 IO (126) (io), 22 IO (125) (io), 27 CLK1p (122) (in), 30 IO/CLK1n (118) (io), 31 CLK3p (117) (in), 32 IO/CLK3n (116) (io), 33 IO (115) (io), 34 IO (114) (io), 35 IO (112) (io), 36 IO (111) (io), 37 IO (110) (io), 40 IO (109) (io), 41 IO (107) (io), 42 VCCIO4 (108) (power), 45 IO (106) (io), 47 IO (105) (io), 48 IO (103) (io), 50 IO (102) (io), 53 VCCIO5 (87) (power), 54 IO (99) (io), 56 IO (98) (io), 57 IO (97) (io), 58 IO (95) (io), 59 IO (94) (io), 60 IO (93) (io), 61 IO (92) (io), 62 IO (91) (io), 63 IO (90) (io), 65 IO (89) (io), 66 IO (88) (io), 68 IO (86) (io), 69 IO (85) (io), 70 IO (84) (io), 71 IO (83) (io), 72 IO (82) (io), 73 IO (81) (io), 74 IO (80) (io), 77 FAST3 (77) (io), 80 VCCIO5 (100) (power), 81 FAST4 (69) (io), 84 IO (66) (io), 85 IO (65) (io), 86 VCCIO6 (46) (power), 87 IO (64) (io), 88 IO (63) (io), 89 IO (62) (io), 91 IO (61) (io), 92 IO (60) (io), 93 IO (58) (io), 94 IO (57) (io), 96 IO (56) (io), 97 IO (55) (io), 98 IO (54) (io), 99 IO (53) (io), 100 IO (52) (io), 101 IO (50) (io), 102 IO (49) (io), 103 IO (48) (io), 104 IO (47) (io), 108 IO (43) (io), 109 IO (42) (io), 110 IO (41) (io), 111 IO (40) (io), 112 IO (38) (io), 113 IO (37) (io), 115 VCCIO7 (39) (power), 116 IO/LOCK4 (36) (io), 117 IO (35) (io), 119 IO/LOCK2 (34) (io), 121 IO/CLKLK_OUT2n (31) (io), 124 IO/DEV_OE (28) (io), 131 CLK2p (21) (in), 134 CLK4p (17) (in), 136 VCCIO8 (6) (power), 137 IO/DEV_CLRn (12) (io), 138 IO/CS (11) (io), 141 IO/nCS (7) (io), 142 IO/nRS (5) (io), 145 IO/nWS (4) (io), 146 IO/DATA7 (3) (io), 150 IO/DATA6 (1) (io), 157 IO/DATA5 (195) (io), 158 IO (194) (io), 159 IO (193) (io), 160 IO/DATA4 (192) (io), 161 IO (190) (io), 162 IO (189) (io), 163 IO/DATA3 (188) (io), 164 IO (187) (io), 166 IO (186) (io), 167 IO (185) (io), 168 IO/DATA2 (184) (io), 171 IO (182) (io), 172 VCCIO1 (172) (power), 173 IO/DATA1 (181) (io), 175 IO (180) (io), 176 IO/CLKUSR (179) (io), 177 IO/RDYnBSY (178) (io), 178 IO/INITDONE (177) (io), 179 IO (176) (io), 181 FAST2 (173) (io), 184 FAST1 (166) (io), 187 IO (162) (io), 188 IO (161) (io), 189 VCCIO2 (147) (power), 190 IO (160) (io), 191 IO (159) (io), 192 IO (158) (io), 193 IO (157) (io), 194 IO (156) (io), 196 IO (154) (io), 197 IO (153) (io), 198 IO (152) (io), 200 IO (151) (io), 201 IO (150) (io), 202 IO (149) (io), 203 IO (148) (io), 204 IO (146) (io), 205 IO (145) (io), 206 IO (144) (io), 207 IO (143) (io), 208 VCCIO2 (163) (power)
part B pins: 25 MSEL0 (124) (in), 26 MSEL1 (123) (in), 28 CLKLK_ENA (121) (in), 29 nCONFIG (120) (in), 75 TMS (79) (in), 76 TCK (78) (in), 82 nSTATUS (68) (io), 83 CONF_DONE (67) (io), 120 CLKLK_OUT2p (32) (out), 129 TDI (23) (in), 130 nCE (22) (in), 132 DCLK (20) (in), 133 DATA0 (19) (in), 135 CLKLK_FB2p (15) (in), 180 TDO (174) (out), 185 nCEO (165) (out), 186 TRST (164) (in)
part C pins: 1 VCCINT (2) (power), 3 NC, 6 NC, 10 GND (power), 15 NC, 16 GND (power), 21 NC, 23 VCCINT (72) (power), 24 GND (power), 38 NC, 39 GND (power), 43 GND (power), 44 NC, 46 NC, 49 NC, 51 NC, 52 VCCINT (73) (power), 55 NC, 64 GND (power), 67 NC, 78 GND (power), 79 VCCINT (113) (power), 90 NC, 95 GND (power), 105 VCCINT (139) (power), 106 NC, 107 NC, 114 GND (power), 118 GND (power), 122 GND_CKOUT2 (30) (power), 123 VCC_CKOUT2 (29) (power), 125 VCC_CKLK2 (27) (power), 126 VCCINT (33) (power), 127 GND (power), 128 GND_CKLK2 (25/26) (power), 139 GND_CKLK4 (9/10) (power), 140 VCC_CKLK4 (8) (power), 143 GND (power), 144 NC, 147 NC, 148 NC, 149 GND (power), 151 NC, 152 NC, 153 NC, 154 NC, 155 NC, 156 VCCINT (169) (power), 165 NC, 169 GND (power), 170 NC, 174 NC, 182 VCCINT (170) (power), 183 GND (power), 195 NC, 199 GND (power)

## EP20K30ETC144-1
designator U?
APEX 20K30E PLD, 144-Pin TQFP, Commercial Grade, Speed Grade 1; Published: 17-Jul-2002; LatestRevisionDate: 13-Apr-2006; LatestRevisionNote: IPC-7351 Footprint Added.; DatasheetVersion: Mar-2004; PackageVersion: ver14.1, Oct-2005; PackageReference: TQFP144; Publisher: Altium Limited; PackageDescription: 144-Pin Plastic Thin Quad Flat Pack (TQFP144); Code_JEDEC: MS-026-BFB; ComponentLink1Description: Manufacturer Link; ComponentLink1URL: http://www.altera.com/products/devices/apex/apx-index.html; ComponentLink2Description: Datasheet; ComponentLink2URL: http://www.altera.com/literature/ds/apex.pdf
footprint TQFP144_N (Thin QFP, 144-Leads, Body 20x20mm, Pitch 0.5mm, IPC Medium Density)
footprint TQFP144_L (Thin QFP, 144-Leads, Body 20x20mm, Pitch 0.5mm, IPC High Density)
footprint TQFP144_M (Thin QFP, 144-Leads, Body 20x20mm, Pitch 0.5mm, IPC Low Density)
3D model EP20K30E-TQFP144 (144-Pin Plastic Thin Quad Flat Pack (TQFP144))
part A pins: 2 IO (141) (io), 3 IO (140) (io), 5 VCCIO3 (134) (power), 6 IO (138) (io), 7 IO (137) (io), 8 IO (135) (io), 9 IO (133) (io), 10 IO (131) (io), 11 IO (130) (io), 13 IO (128) (io), 14 IO (126) (io), 15 IO (125) (io), 20 CLK1p (122) (in), 23 CLK3p (117) (in), 24 IO (115) (io), 25 IO (114) (io), 26 IO (112) (io), 27 IO (110) (io), 28 VCCIO4 (108) (power), 29 IO (109) (io), 30 IO (107) (io), 31 IO (106) (io), 32 IO (105) (io), 33 IO (103) (io), 35 IO (102) (io), 37 IO (99) (io), 38 IO (98) (io), 39 IO (97) (io), 40 IO (95) (io), 41 IO (92) (io), 43 IO (91) (io), 44 IO (89) (io), 45 VCCIO5 (87) (power), 46 IO (86) (io), 47 IO (84) (io), 48 IO (83) (io), 49 IO (82) (io), 50 IO (80) (io), 53 FAST3 (77) (io), 56 FAST4 (69) (io), 59 IO (66) (io), 60 IO (65) (io), 61 VCCIO6 (46) (power), 62 IO (62) (io), 63 IO (61) (io), 64 IO (60) (io), 65 IO (58) (io), 66 IO (55) (io), 67 IO (54) (io), 68 IO (52) (io), 69 IO (50) (io), 70 IO (49) (io), 71 IO (47) (io), 75 IO (38) (io), 76 IO (37) (io), 78 IO/LOCK4 (36) (io), 79 IO (35) (io), 80 IO/LOCK2 (34) (io), 84 IO/DEV_OE (28) (io), 89 VCCIO7 (39) (power), 92 CLK2p (21) (in), 95 CLK4p (17) (in), 97 IO/DEV_CLRn (12) (io), 98 IO/CS (11) (io), 101 IO/nCS (7) (io), 102 IO/nRS (5) (io), 103 IO/nWS (4) (io), 104 IO/DATA7 (3) (io), 105 IO/DATA6 (1) (io), 107 VCCIO8 (6) (power), 109 IO/DATA5 (195) (io), 110 IO (194) (io), 111 IO/DATA4 (192) (io), 112 IO/DATA3 (188) (io), 113 IO (187) (io), 114 IO (186) (io), 115 IO/DATA2 (184) (io), 116 VCCIO1 (172) (power), 117 IO/DATA1 (181) (io), 118 IO (180) (io), 119 IO/CLKUSR (179) (io), 120 IO/RDYnBSY (178) (io), 121 IO/INIT_DONE (177) (io), 122 IO (176) (io), 124 FAST2 (173) (io), 127 FAST1 (166) (io), 130 IO (162) (io), 131 IO (161) (io), 132 IO (158) (io), 133 IO (156) (io), 135 IO (154) (io), 136 IO (153) (io), 137 IO (151) (io), 138 IO (149) (io), 139 IO (148) (io), 140 IO (146) (io), 141 IO (145) (io), 142 IO (144) (io), 143 IO (143) (io), 144 VCCIO2 (147) (power)
part B pins: 18 MSEL0 (124) (in), 19 MSEL1 (123) (in), 21 CLKLK_ENA (121) (in), 22 nCONFIG (120) (in), 51 TMS (79) (in), 52 TCK (78) (in), 57 nSTATUS (68) (io), 58 CONF_DONE (67) (io), 81 CLKLK_OUT2p (32) (out), 90 TDI (23) (in), 91 nCE (22) (in), 93 DCLK (20) (in), 94 DATA0 (19) (in), 96 CLKLK_FB2p (15) (in), 123 TDO (174) (out), 128 nCEO (165) (out), 129 TRST (164) (in)
part C pins: 1 VCCINT (2) (power), 4 GND (power), 12 GND (power), 16 VCCINT (72) (power), 17 GND (power), 34 GND (power), 36 VCCINT (73) (power), 42 GND (power), 54 GND (power), 55 VCCINT (113) (power), 72 GND (power), 73 VCCINT (139) (power), 74 GND (power), 77 GND (power), 82 GND_CKOUT2 (30) (power), 83 VCC_CKOUT2 (29) (power), 85 VCC_CKLK2 (27) (power), 86 VCCINT (33) (power), 87 GND (power), 88 GND_CKLK2 (25/26) (power), 99 GND_CKLK4 (9/10) (power), 100 VCC_CKLK4 (8) (power), 106 GND (power), 108 VCCINT (169) (power), 125 VCCINT (170) (power), 126 GND (power), 134 GND (power)

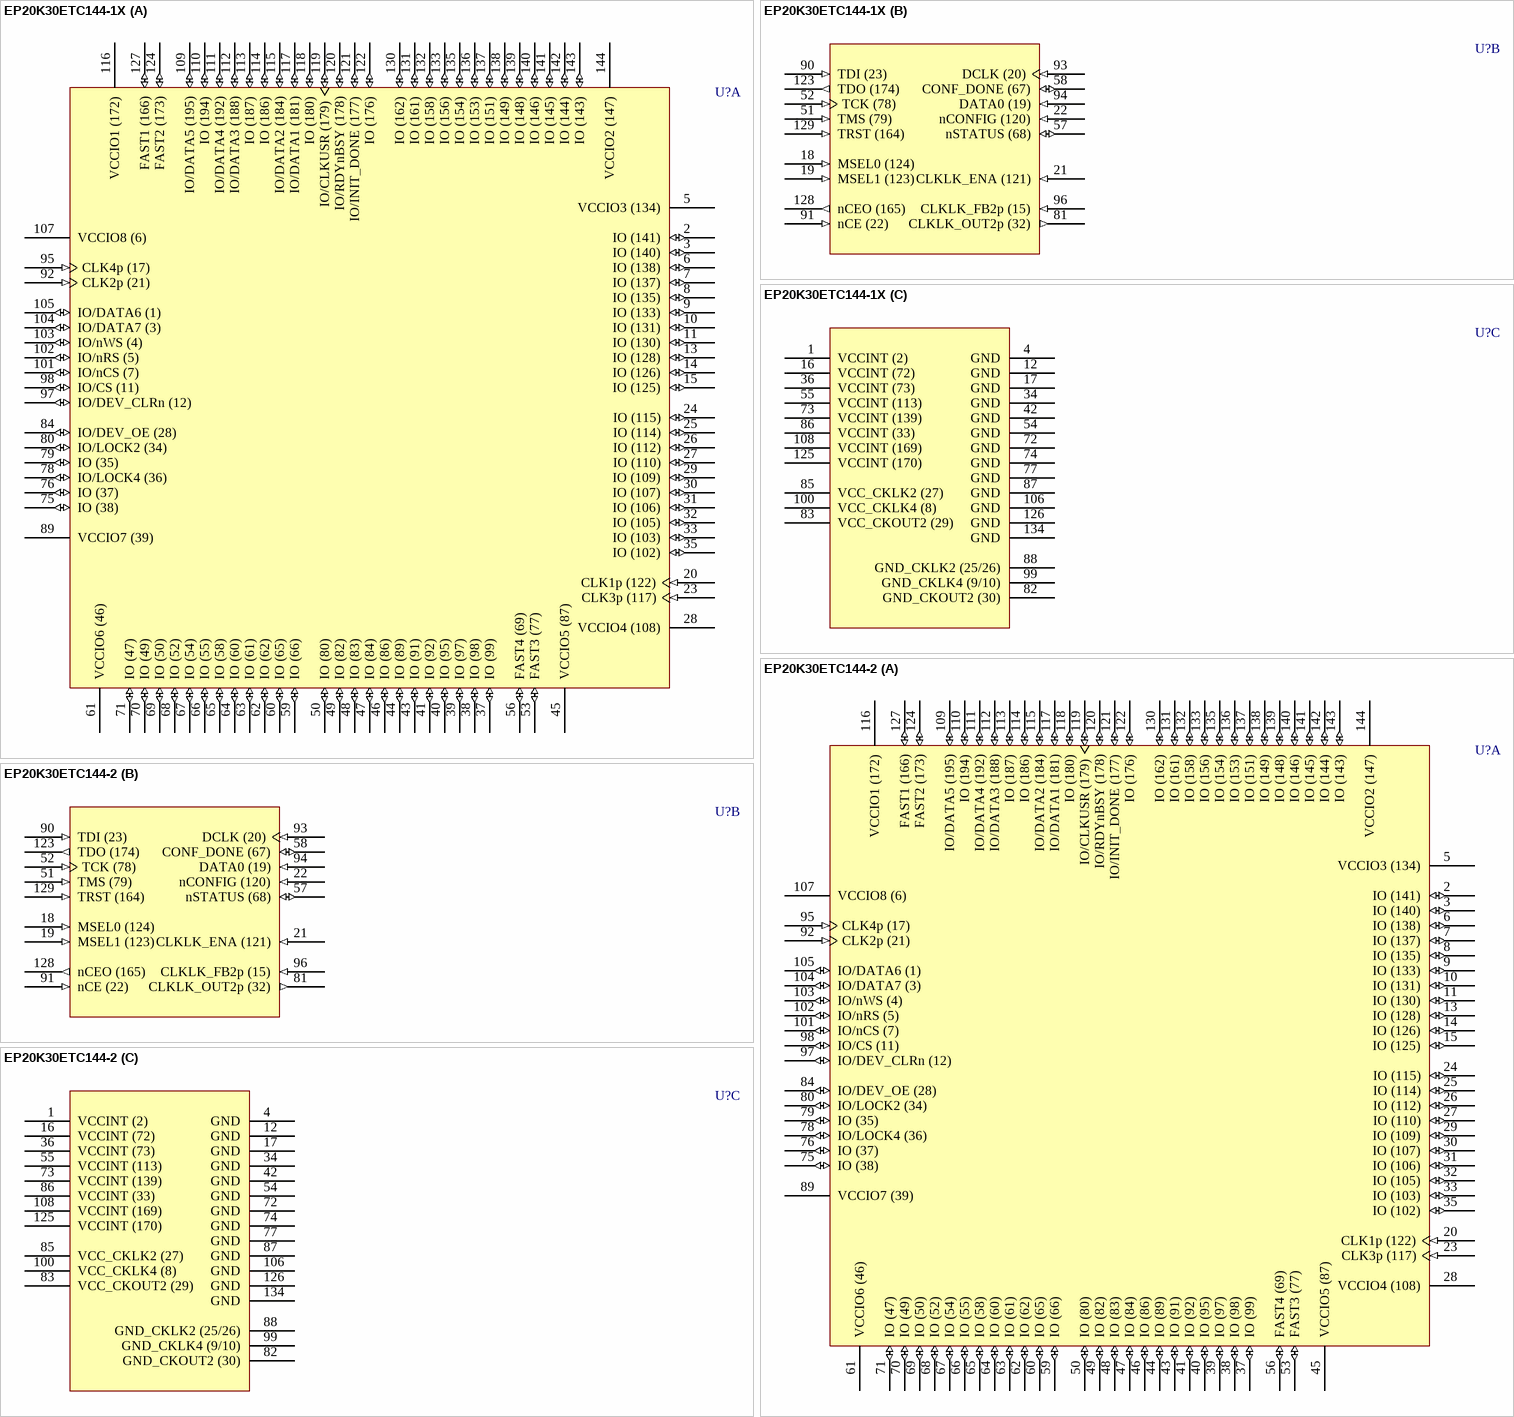
[diagram p22: symbols EP20K30ETC144-1X to EP20K30ETC144-2]

## EP20K30ETC144-1X
designator U?
APEX 20K30E PLD with PLLs and LVDS, 144-Pin TQFP, Commercial Grade, Speed Grade 1; Published: 17-Jul-2002; LatestRevisionDate: 13-Apr-2006; LatestRevisionNote: IPC-7351 Footprint Added.; DatasheetVersion: Mar-2004; PackageVersion: ver14.1, Oct-2005; PackageReference: TQFP144; Publisher: Altium Limited; PackageDescription: 144-Pin Plastic Thin Quad Flat Pack (TQFP144); Code_JEDEC: MS-026-BFB; ComponentLink1Description: Manufacturer Link; ComponentLink1URL: http://www.altera.com/products/devices/apex/apx-index.html; ComponentLink2Description: Datasheet; ComponentLink2URL: http://www.altera.com/literature/ds/apex.pdf
footprint TQFP144_N (Thin QFP, 144-Leads, Body 20x20mm, Pitch 0.5mm, IPC Medium Density)
footprint TQFP144_L (Thin QFP, 144-Leads, Body 20x20mm, Pitch 0.5mm, IPC High Density)
footprint TQFP144_M (Thin QFP, 144-Leads, Body 20x20mm, Pitch 0.5mm, IPC Low Density)
3D model EP20K30E-TQFP144 (144-Pin Plastic Thin Quad Flat Pack (TQFP144))
part A pins: 2 IO (141) (io), 3 IO (140) (io), 5 VCCIO3 (134) (power), 6 IO (138) (io), 7 IO (137) (io), 8 IO (135) (io), 9 IO (133) (io), 10 IO (131) (io), 11 IO (130) (io), 13 IO (128) (io), 14 IO (126) (io), 15 IO (125) (io), 20 CLK1p (122) (in), 23 CLK3p (117) (in), 24 IO (115) (io), 25 IO (114) (io), 26 IO (112) (io), 27 IO (110) (io), 28 VCCIO4 (108) (power), 29 IO (109) (io), 30 IO (107) (io), 31 IO (106) (io), 32 IO (105) (io), 33 IO (103) (io), 35 IO (102) (io), 37 IO (99) (io), 38 IO (98) (io), 39 IO (97) (io), 40 IO (95) (io), 41 IO (92) (io), 43 IO (91) (io), 44 IO (89) (io), 45 VCCIO5 (87) (power), 46 IO (86) (io), 47 IO (84) (io), 48 IO (83) (io), 49 IO (82) (io), 50 IO (80) (io), 53 FAST3 (77) (io), 56 FAST4 (69) (io), 59 IO (66) (io), 60 IO (65) (io), 61 VCCIO6 (46) (power), 62 IO (62) (io), 63 IO (61) (io), 64 IO (60) (io), 65 IO (58) (io), 66 IO (55) (io), 67 IO (54) (io), 68 IO (52) (io), 69 IO (50) (io), 70 IO (49) (io), 71 IO (47) (io), 75 IO (38) (io), 76 IO (37) (io), 78 IO/LOCK4 (36) (io), 79 IO (35) (io), 80 IO/LOCK2 (34) (io), 84 IO/DEV_OE (28) (io), 89 VCCIO7 (39) (power), 92 CLK2p (21) (in), 95 CLK4p (17) (in), 97 IO/DEV_CLRn (12) (io), 98 IO/CS (11) (io), 101 IO/nCS (7) (io), 102 IO/nRS (5) (io), 103 IO/nWS (4) (io), 104 IO/DATA7 (3) (io), 105 IO/DATA6 (1) (io), 107 VCCIO8 (6) (power), 109 IO/DATA5 (195) (io), 110 IO (194) (io), 111 IO/DATA4 (192) (io), 112 IO/DATA3 (188) (io), 113 IO (187) (io), 114 IO (186) (io), 115 IO/DATA2 (184) (io), 116 VCCIO1 (172) (power), 117 IO/DATA1 (181) (io), 118 IO (180) (io), 119 IO/CLKUSR (179) (io), 120 IO/RDYnBSY (178) (io), 121 IO/INIT_DONE (177) (io), 122 IO (176) (io), 124 FAST2 (173) (io), 127 FAST1 (166) (io), 130 IO (162) (io), 131 IO (161) (io), 132 IO (158) (io), 133 IO (156) (io), 135 IO (154) (io), 136 IO (153) (io), 137 IO (151) (io), 138 IO (149) (io), 139 IO (148) (io), 140 IO (146) (io), 141 IO (145) (io), 142 IO (144) (io), 143 IO (143) (io), 144 VCCIO2 (147) (power)
part B pins: 18 MSEL0 (124) (in), 19 MSEL1 (123) (in), 21 CLKLK_ENA (121) (in), 22 nCONFIG (120) (in), 51 TMS (79) (in), 52 TCK (78) (in), 57 nSTATUS (68) (io), 58 CONF_DONE (67) (io), 81 CLKLK_OUT2p (32) (out), 90 TDI (23) (in), 91 nCE (22) (in), 93 DCLK (20) (in), 94 DATA0 (19) (in), 96 CLKLK_FB2p (15) (in), 123 TDO (174) (out), 128 nCEO (165) (out), 129 TRST (164) (in)
part C pins: 1 VCCINT (2) (power), 4 GND (power), 12 GND (power), 16 VCCINT (72) (power), 17 GND (power), 34 GND (power), 36 VCCINT (73) (power), 42 GND (power), 54 GND (power), 55 VCCINT (113) (power), 72 GND (power), 73 VCCINT (139) (power), 74 GND (power), 77 GND (power), 82 GND_CKOUT2 (30) (power), 83 VCC_CKOUT2 (29) (power), 85 VCC_CKLK2 (27) (power), 86 VCCINT (33) (power), 87 GND (power), 88 GND_CKLK2 (25/26) (power), 99 GND_CKLK4 (9/10) (power), 100 VCC_CKLK4 (8) (power), 106 GND (power), 108 VCCINT (169) (power), 125 VCCINT (170) (power), 126 GND (power), 134 GND (power)

## EP20K30ETC144-2
designator U?
APEX 20K30E PLD, 144-Pin TQFP, Commercial Grade, Speed Grade 2; Published: 17-Jul-2002; LatestRevisionDate: 13-Apr-2006; LatestRevisionNote: IPC-7351 Footprint Added.; DatasheetVersion: Mar-2004; PackageVersion: ver14.1, Oct-2005; PackageReference: TQFP144; Publisher: Altium Limited; PackageDescription: 144-Pin Plastic Thin Quad Flat Pack (TQFP144); Code_JEDEC: MS-026-BFB; ComponentLink1Description: Manufacturer Link; ComponentLink1URL: http://www.altera.com/products/devices/apex/apx-index.html; ComponentLink2Description: Datasheet; ComponentLink2URL: http://www.altera.com/literature/ds/apex.pdf
footprint TQFP144_N (Thin QFP, 144-Leads, Body 20x20mm, Pitch 0.5mm, IPC Medium Density)
footprint TQFP144_L (Thin QFP, 144-Leads, Body 20x20mm, Pitch 0.5mm, IPC High Density)
footprint TQFP144_M (Thin QFP, 144-Leads, Body 20x20mm, Pitch 0.5mm, IPC Low Density)
3D model EP20K30E-TQFP144 (144-Pin Plastic Thin Quad Flat Pack (TQFP144))
part A pins: 2 IO (141) (io), 3 IO (140) (io), 5 VCCIO3 (134) (power), 6 IO (138) (io), 7 IO (137) (io), 8 IO (135) (io), 9 IO (133) (io), 10 IO (131) (io), 11 IO (130) (io), 13 IO (128) (io), 14 IO (126) (io), 15 IO (125) (io), 20 CLK1p (122) (in), 23 CLK3p (117) (in), 24 IO (115) (io), 25 IO (114) (io), 26 IO (112) (io), 27 IO (110) (io), 28 VCCIO4 (108) (power), 29 IO (109) (io), 30 IO (107) (io), 31 IO (106) (io), 32 IO (105) (io), 33 IO (103) (io), 35 IO (102) (io), 37 IO (99) (io), 38 IO (98) (io), 39 IO (97) (io), 40 IO (95) (io), 41 IO (92) (io), 43 IO (91) (io), 44 IO (89) (io), 45 VCCIO5 (87) (power), 46 IO (86) (io), 47 IO (84) (io), 48 IO (83) (io), 49 IO (82) (io), 50 IO (80) (io), 53 FAST3 (77) (io), 56 FAST4 (69) (io), 59 IO (66) (io), 60 IO (65) (io), 61 VCCIO6 (46) (power), 62 IO (62) (io), 63 IO (61) (io), 64 IO (60) (io), 65 IO (58) (io), 66 IO (55) (io), 67 IO (54) (io), 68 IO (52) (io), 69 IO (50) (io), 70 IO (49) (io), 71 IO (47) (io), 75 IO (38) (io), 76 IO (37) (io), 78 IO/LOCK4 (36) (io), 79 IO (35) (io), 80 IO/LOCK2 (34) (io), 84 IO/DEV_OE (28) (io), 89 VCCIO7 (39) (power), 92 CLK2p (21) (in), 95 CLK4p (17) (in), 97 IO/DEV_CLRn (12) (io), 98 IO/CS (11) (io), 101 IO/nCS (7) (io), 102 IO/nRS (5) (io), 103 IO/nWS (4) (io), 104 IO/DATA7 (3) (io), 105 IO/DATA6 (1) (io), 107 VCCIO8 (6) (power), 109 IO/DATA5 (195) (io), 110 IO (194) (io), 111 IO/DATA4 (192) (io), 112 IO/DATA3 (188) (io), 113 IO (187) (io), 114 IO (186) (io), 115 IO/DATA2 (184) (io), 116 VCCIO1 (172) (power), 117 IO/DATA1 (181) (io), 118 IO (180) (io), 119 IO/CLKUSR (179) (io), 120 IO/RDYnBSY (178) (io), 121 IO/INIT_DONE (177) (io), 122 IO (176) (io), 124 FAST2 (173) (io), 127 FAST1 (166) (io), 130 IO (162) (io), 131 IO (161) (io), 132 IO (158) (io), 133 IO (156) (io), 135 IO (154) (io), 136 IO (153) (io), 137 IO (151) (io), 138 IO (149) (io), 139 IO (148) (io), 140 IO (146) (io), 141 IO (145) (io), 142 IO (144) (io), 143 IO (143) (io), 144 VCCIO2 (147) (power)
part B pins: 18 MSEL0 (124) (in), 19 MSEL1 (123) (in), 21 CLKLK_ENA (121) (in), 22 nCONFIG (120) (in), 51 TMS (79) (in), 52 TCK (78) (in), 57 nSTATUS (68) (io), 58 CONF_DONE (67) (io), 81 CLKLK_OUT2p (32) (out), 90 TDI (23) (in), 91 nCE (22) (in), 93 DCLK (20) (in), 94 DATA0 (19) (in), 96 CLKLK_FB2p (15) (in), 123 TDO (174) (out), 128 nCEO (165) (out), 129 TRST (164) (in)
part C pins: 1 VCCINT (2) (power), 4 GND (power), 12 GND (power), 16 VCCINT (72) (power), 17 GND (power), 34 GND (power), 36 VCCINT (73) (power), 42 GND (power), 54 GND (power), 55 VCCINT (113) (power), 72 GND (power), 73 VCCINT (139) (power), 74 GND (power), 77 GND (power), 82 GND_CKOUT2 (30) (power), 83 VCC_CKOUT2 (29) (power), 85 VCC_CKLK2 (27) (power), 86 VCCINT (33) (power), 87 GND (power), 88 GND_CKLK2 (25/26) (power), 99 GND_CKLK4 (9/10) (power), 100 VCC_CKLK4 (8) (power), 106 GND (power), 108 VCCINT (169) (power), 125 VCCINT (170) (power), 126 GND (power), 134 GND (power)

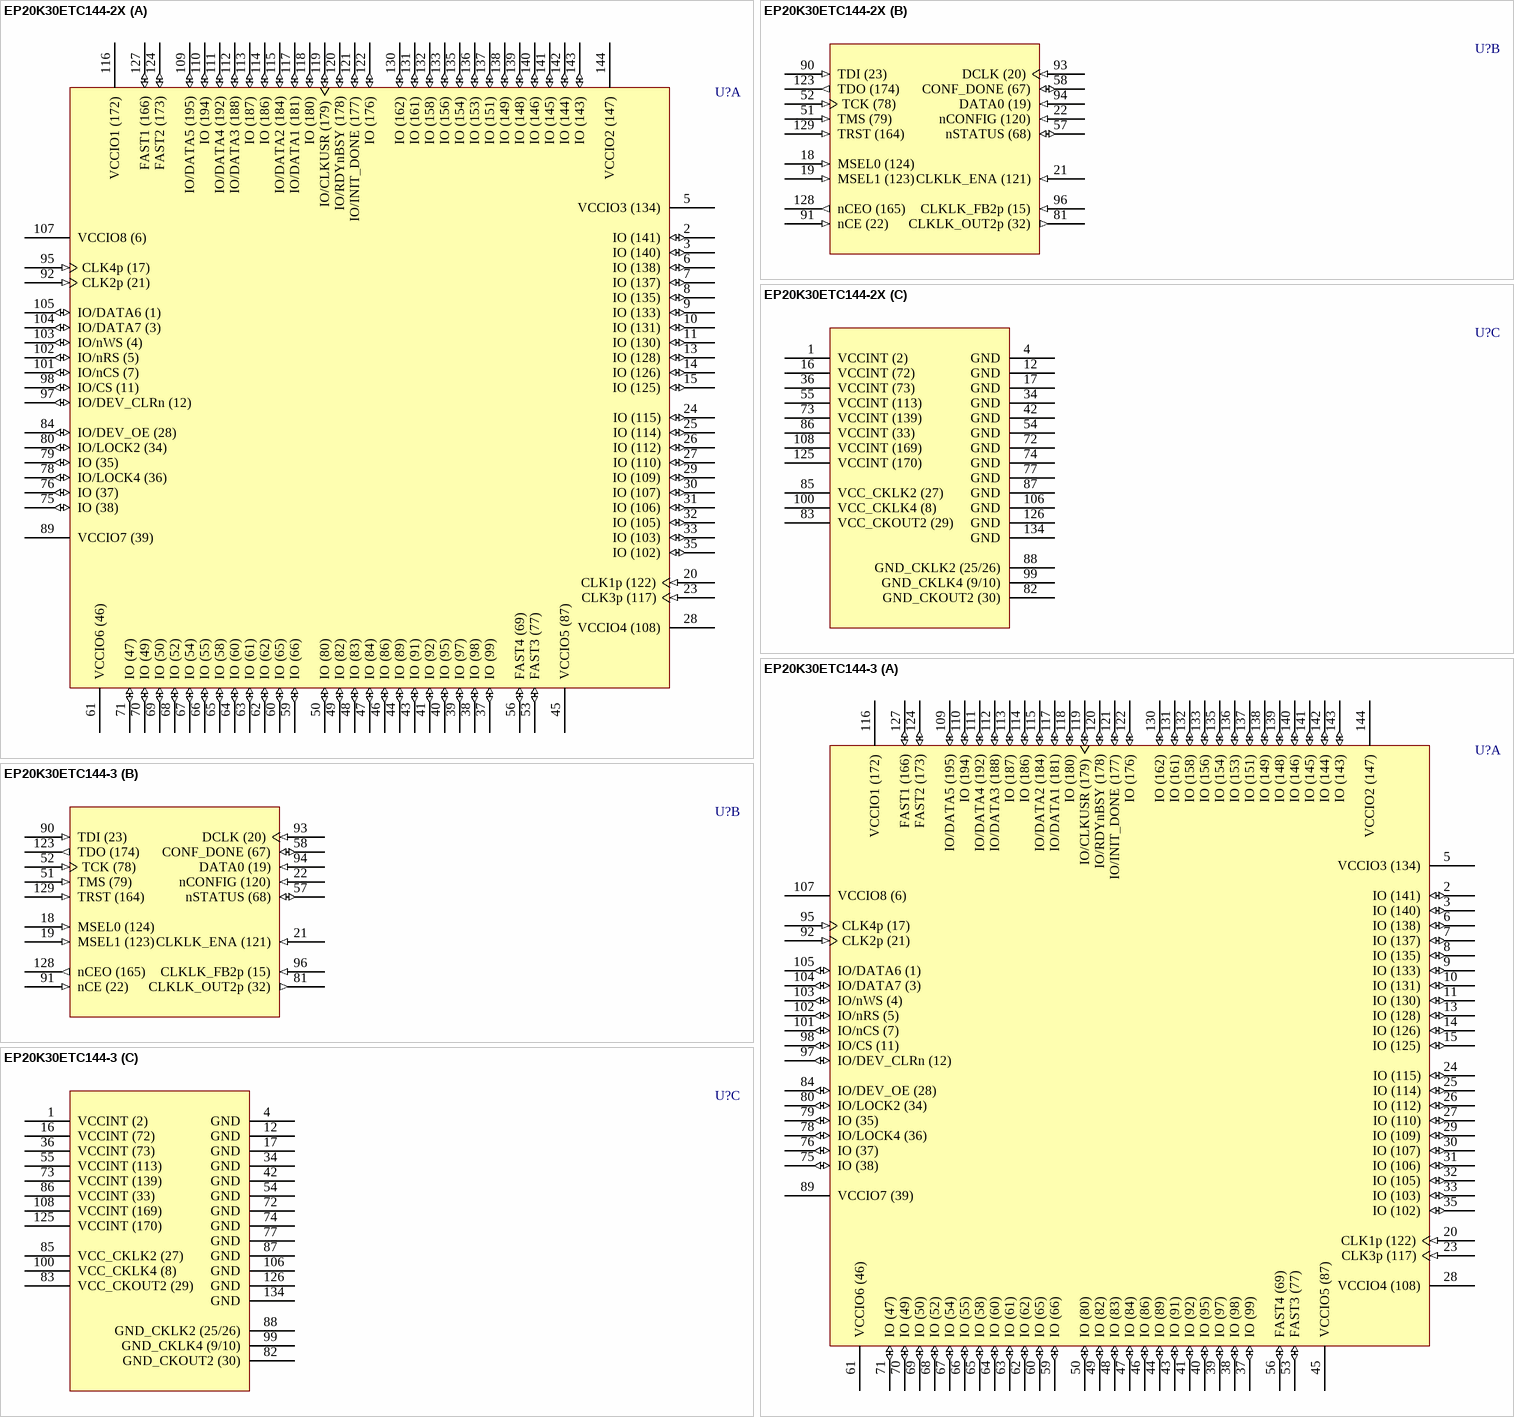
[diagram p23: symbols EP20K30ETC144-2X to EP20K30ETC144-3]

## EP20K30ETC144-2X
designator U?
APEX 20K30E PLD with PLLs and LVDS, 144-Pin TQFP, Commercial Grade, Speed Grade 2; Published: 17-Jul-2002; LatestRevisionDate: 13-Apr-2006; LatestRevisionNote: IPC-7351 Footprint Added.; DatasheetVersion: Mar-2004; PackageVersion: ver14.1, Oct-2005; PackageReference: TQFP144; Publisher: Altium Limited; PackageDescription: 144-Pin Plastic Thin Quad Flat Pack (TQFP144); Code_JEDEC: MS-026-BFB; ComponentLink1Description: Manufacturer Link; ComponentLink1URL: http://www.altera.com/products/devices/apex/apx-index.html; ComponentLink2Description: Datasheet; ComponentLink2URL: http://www.altera.com/literature/ds/apex.pdf
footprint TQFP144_N (Thin QFP, 144-Leads, Body 20x20mm, Pitch 0.5mm, IPC Medium Density)
footprint TQFP144_L (Thin QFP, 144-Leads, Body 20x20mm, Pitch 0.5mm, IPC High Density)
footprint TQFP144_M (Thin QFP, 144-Leads, Body 20x20mm, Pitch 0.5mm, IPC Low Density)
3D model EP20K30E-TQFP144 (144-Pin Plastic Thin Quad Flat Pack (TQFP144))
part A pins: 2 IO (141) (io), 3 IO (140) (io), 5 VCCIO3 (134) (power), 6 IO (138) (io), 7 IO (137) (io), 8 IO (135) (io), 9 IO (133) (io), 10 IO (131) (io), 11 IO (130) (io), 13 IO (128) (io), 14 IO (126) (io), 15 IO (125) (io), 20 CLK1p (122) (in), 23 CLK3p (117) (in), 24 IO (115) (io), 25 IO (114) (io), 26 IO (112) (io), 27 IO (110) (io), 28 VCCIO4 (108) (power), 29 IO (109) (io), 30 IO (107) (io), 31 IO (106) (io), 32 IO (105) (io), 33 IO (103) (io), 35 IO (102) (io), 37 IO (99) (io), 38 IO (98) (io), 39 IO (97) (io), 40 IO (95) (io), 41 IO (92) (io), 43 IO (91) (io), 44 IO (89) (io), 45 VCCIO5 (87) (power), 46 IO (86) (io), 47 IO (84) (io), 48 IO (83) (io), 49 IO (82) (io), 50 IO (80) (io), 53 FAST3 (77) (io), 56 FAST4 (69) (io), 59 IO (66) (io), 60 IO (65) (io), 61 VCCIO6 (46) (power), 62 IO (62) (io), 63 IO (61) (io), 64 IO (60) (io), 65 IO (58) (io), 66 IO (55) (io), 67 IO (54) (io), 68 IO (52) (io), 69 IO (50) (io), 70 IO (49) (io), 71 IO (47) (io), 75 IO (38) (io), 76 IO (37) (io), 78 IO/LOCK4 (36) (io), 79 IO (35) (io), 80 IO/LOCK2 (34) (io), 84 IO/DEV_OE (28) (io), 89 VCCIO7 (39) (power), 92 CLK2p (21) (in), 95 CLK4p (17) (in), 97 IO/DEV_CLRn (12) (io), 98 IO/CS (11) (io), 101 IO/nCS (7) (io), 102 IO/nRS (5) (io), 103 IO/nWS (4) (io), 104 IO/DATA7 (3) (io), 105 IO/DATA6 (1) (io), 107 VCCIO8 (6) (power), 109 IO/DATA5 (195) (io), 110 IO (194) (io), 111 IO/DATA4 (192) (io), 112 IO/DATA3 (188) (io), 113 IO (187) (io), 114 IO (186) (io), 115 IO/DATA2 (184) (io), 116 VCCIO1 (172) (power), 117 IO/DATA1 (181) (io), 118 IO (180) (io), 119 IO/CLKUSR (179) (io), 120 IO/RDYnBSY (178) (io), 121 IO/INIT_DONE (177) (io), 122 IO (176) (io), 124 FAST2 (173) (io), 127 FAST1 (166) (io), 130 IO (162) (io), 131 IO (161) (io), 132 IO (158) (io), 133 IO (156) (io), 135 IO (154) (io), 136 IO (153) (io), 137 IO (151) (io), 138 IO (149) (io), 139 IO (148) (io), 140 IO (146) (io), 141 IO (145) (io), 142 IO (144) (io), 143 IO (143) (io), 144 VCCIO2 (147) (power)
part B pins: 18 MSEL0 (124) (in), 19 MSEL1 (123) (in), 21 CLKLK_ENA (121) (in), 22 nCONFIG (120) (in), 51 TMS (79) (in), 52 TCK (78) (in), 57 nSTATUS (68) (io), 58 CONF_DONE (67) (io), 81 CLKLK_OUT2p (32) (out), 90 TDI (23) (in), 91 nCE (22) (in), 93 DCLK (20) (in), 94 DATA0 (19) (in), 96 CLKLK_FB2p (15) (in), 123 TDO (174) (out), 128 nCEO (165) (out), 129 TRST (164) (in)
part C pins: 1 VCCINT (2) (power), 4 GND (power), 12 GND (power), 16 VCCINT (72) (power), 17 GND (power), 34 GND (power), 36 VCCINT (73) (power), 42 GND (power), 54 GND (power), 55 VCCINT (113) (power), 72 GND (power), 73 VCCINT (139) (power), 74 GND (power), 77 GND (power), 82 GND_CKOUT2 (30) (power), 83 VCC_CKOUT2 (29) (power), 85 VCC_CKLK2 (27) (power), 86 VCCINT (33) (power), 87 GND (power), 88 GND_CKLK2 (25/26) (power), 99 GND_CKLK4 (9/10) (power), 100 VCC_CKLK4 (8) (power), 106 GND (power), 108 VCCINT (169) (power), 125 VCCINT (170) (power), 126 GND (power), 134 GND (power)

## EP20K30ETC144-3
designator U?
APEX 20K30E PLD, 144-Pin TQFP, Commercial Grade, Speed Grade 3; Published: 17-Jul-2002; LatestRevisionDate: 13-Apr-2006; LatestRevisionNote: IPC-7351 Footprint Added.; DatasheetVersion: Mar-2004; PackageVersion: ver14.1, Oct-2005; PackageReference: TQFP144; Publisher: Altium Limited; PackageDescription: 144-Pin Plastic Thin Quad Flat Pack (TQFP144); Code_JEDEC: MS-026-BFB; ComponentLink1Description: Manufacturer Link; ComponentLink1URL: http://www.altera.com/products/devices/apex/apx-index.html; ComponentLink2Description: Datasheet; ComponentLink2URL: http://www.altera.com/literature/ds/apex.pdf
footprint TQFP144_N (Thin QFP, 144-Leads, Body 20x20mm, Pitch 0.5mm, IPC Medium Density)
footprint TQFP144_L (Thin QFP, 144-Leads, Body 20x20mm, Pitch 0.5mm, IPC High Density)
footprint TQFP144_M (Thin QFP, 144-Leads, Body 20x20mm, Pitch 0.5mm, IPC Low Density)
3D model EP20K30E-TQFP144 (144-Pin Plastic Thin Quad Flat Pack (TQFP144))
part A pins: 2 IO (141) (io), 3 IO (140) (io), 5 VCCIO3 (134) (power), 6 IO (138) (io), 7 IO (137) (io), 8 IO (135) (io), 9 IO (133) (io), 10 IO (131) (io), 11 IO (130) (io), 13 IO (128) (io), 14 IO (126) (io), 15 IO (125) (io), 20 CLK1p (122) (in), 23 CLK3p (117) (in), 24 IO (115) (io), 25 IO (114) (io), 26 IO (112) (io), 27 IO (110) (io), 28 VCCIO4 (108) (power), 29 IO (109) (io), 30 IO (107) (io), 31 IO (106) (io), 32 IO (105) (io), 33 IO (103) (io), 35 IO (102) (io), 37 IO (99) (io), 38 IO (98) (io), 39 IO (97) (io), 40 IO (95) (io), 41 IO (92) (io), 43 IO (91) (io), 44 IO (89) (io), 45 VCCIO5 (87) (power), 46 IO (86) (io), 47 IO (84) (io), 48 IO (83) (io), 49 IO (82) (io), 50 IO (80) (io), 53 FAST3 (77) (io), 56 FAST4 (69) (io), 59 IO (66) (io), 60 IO (65) (io), 61 VCCIO6 (46) (power), 62 IO (62) (io), 63 IO (61) (io), 64 IO (60) (io), 65 IO (58) (io), 66 IO (55) (io), 67 IO (54) (io), 68 IO (52) (io), 69 IO (50) (io), 70 IO (49) (io), 71 IO (47) (io), 75 IO (38) (io), 76 IO (37) (io), 78 IO/LOCK4 (36) (io), 79 IO (35) (io), 80 IO/LOCK2 (34) (io), 84 IO/DEV_OE (28) (io), 89 VCCIO7 (39) (power), 92 CLK2p (21) (in), 95 CLK4p (17) (in), 97 IO/DEV_CLRn (12) (io), 98 IO/CS (11) (io), 101 IO/nCS (7) (io), 102 IO/nRS (5) (io), 103 IO/nWS (4) (io), 104 IO/DATA7 (3) (io), 105 IO/DATA6 (1) (io), 107 VCCIO8 (6) (power), 109 IO/DATA5 (195) (io), 110 IO (194) (io), 111 IO/DATA4 (192) (io), 112 IO/DATA3 (188) (io), 113 IO (187) (io), 114 IO (186) (io), 115 IO/DATA2 (184) (io), 116 VCCIO1 (172) (power), 117 IO/DATA1 (181) (io), 118 IO (180) (io), 119 IO/CLKUSR (179) (io), 120 IO/RDYnBSY (178) (io), 121 IO/INIT_DONE (177) (io), 122 IO (176) (io), 124 FAST2 (173) (io), 127 FAST1 (166) (io), 130 IO (162) (io), 131 IO (161) (io), 132 IO (158) (io), 133 IO (156) (io), 135 IO (154) (io), 136 IO (153) (io), 137 IO (151) (io), 138 IO (149) (io), 139 IO (148) (io), 140 IO (146) (io), 141 IO (145) (io), 142 IO (144) (io), 143 IO (143) (io), 144 VCCIO2 (147) (power)
part B pins: 18 MSEL0 (124) (in), 19 MSEL1 (123) (in), 21 CLKLK_ENA (121) (in), 22 nCONFIG (120) (in), 51 TMS (79) (in), 52 TCK (78) (in), 57 nSTATUS (68) (io), 58 CONF_DONE (67) (io), 81 CLKLK_OUT2p (32) (out), 90 TDI (23) (in), 91 nCE (22) (in), 93 DCLK (20) (in), 94 DATA0 (19) (in), 96 CLKLK_FB2p (15) (in), 123 TDO (174) (out), 128 nCEO (165) (out), 129 TRST (164) (in)
part C pins: 1 VCCINT (2) (power), 4 GND (power), 12 GND (power), 16 VCCINT (72) (power), 17 GND (power), 34 GND (power), 36 VCCINT (73) (power), 42 GND (power), 54 GND (power), 55 VCCINT (113) (power), 72 GND (power), 73 VCCINT (139) (power), 74 GND (power), 77 GND (power), 82 GND_CKOUT2 (30) (power), 83 VCC_CKOUT2 (29) (power), 85 VCC_CKLK2 (27) (power), 86 VCCINT (33) (power), 87 GND (power), 88 GND_CKLK2 (25/26) (power), 99 GND_CKLK4 (9/10) (power), 100 VCC_CKLK4 (8) (power), 106 GND (power), 108 VCCINT (169) (power), 125 VCCINT (170) (power), 126 GND (power), 134 GND (power)

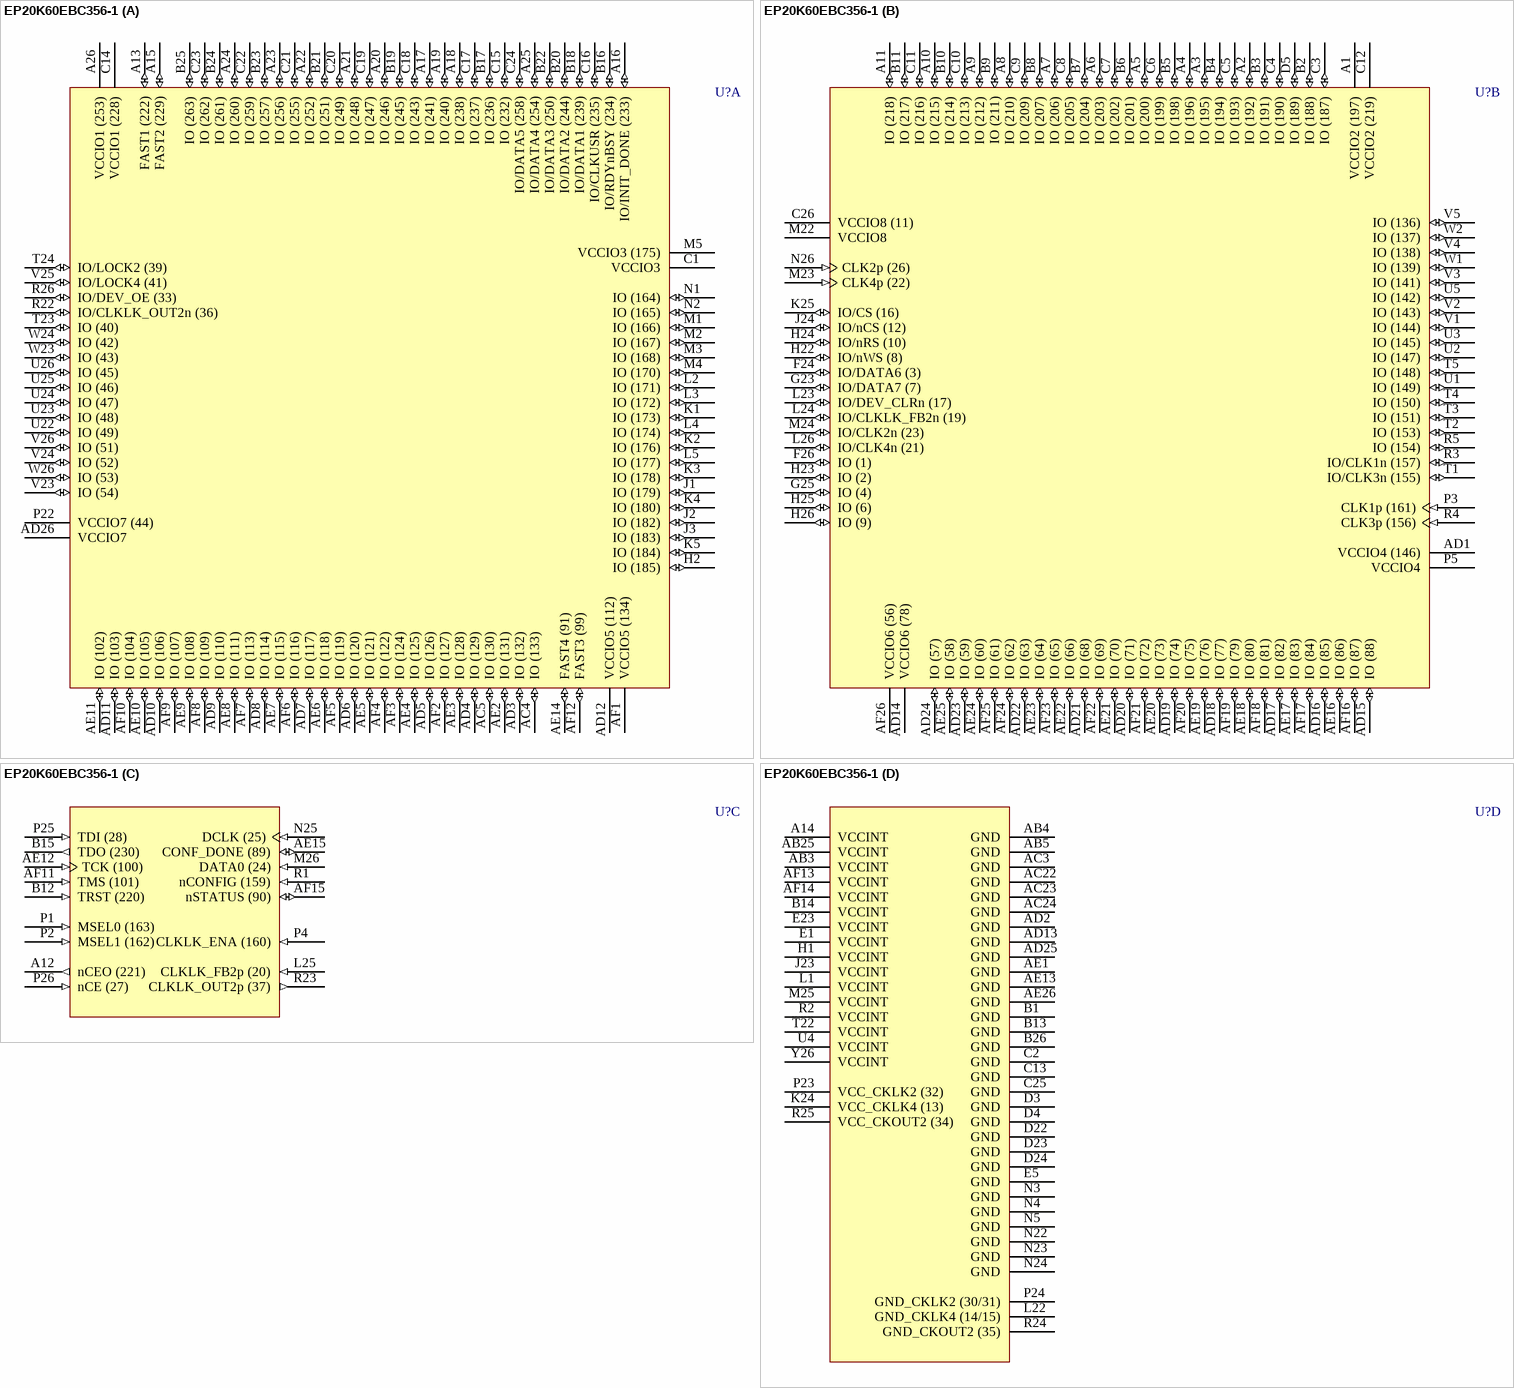
[diagram p24: symbol EP20K60EBC356-1]

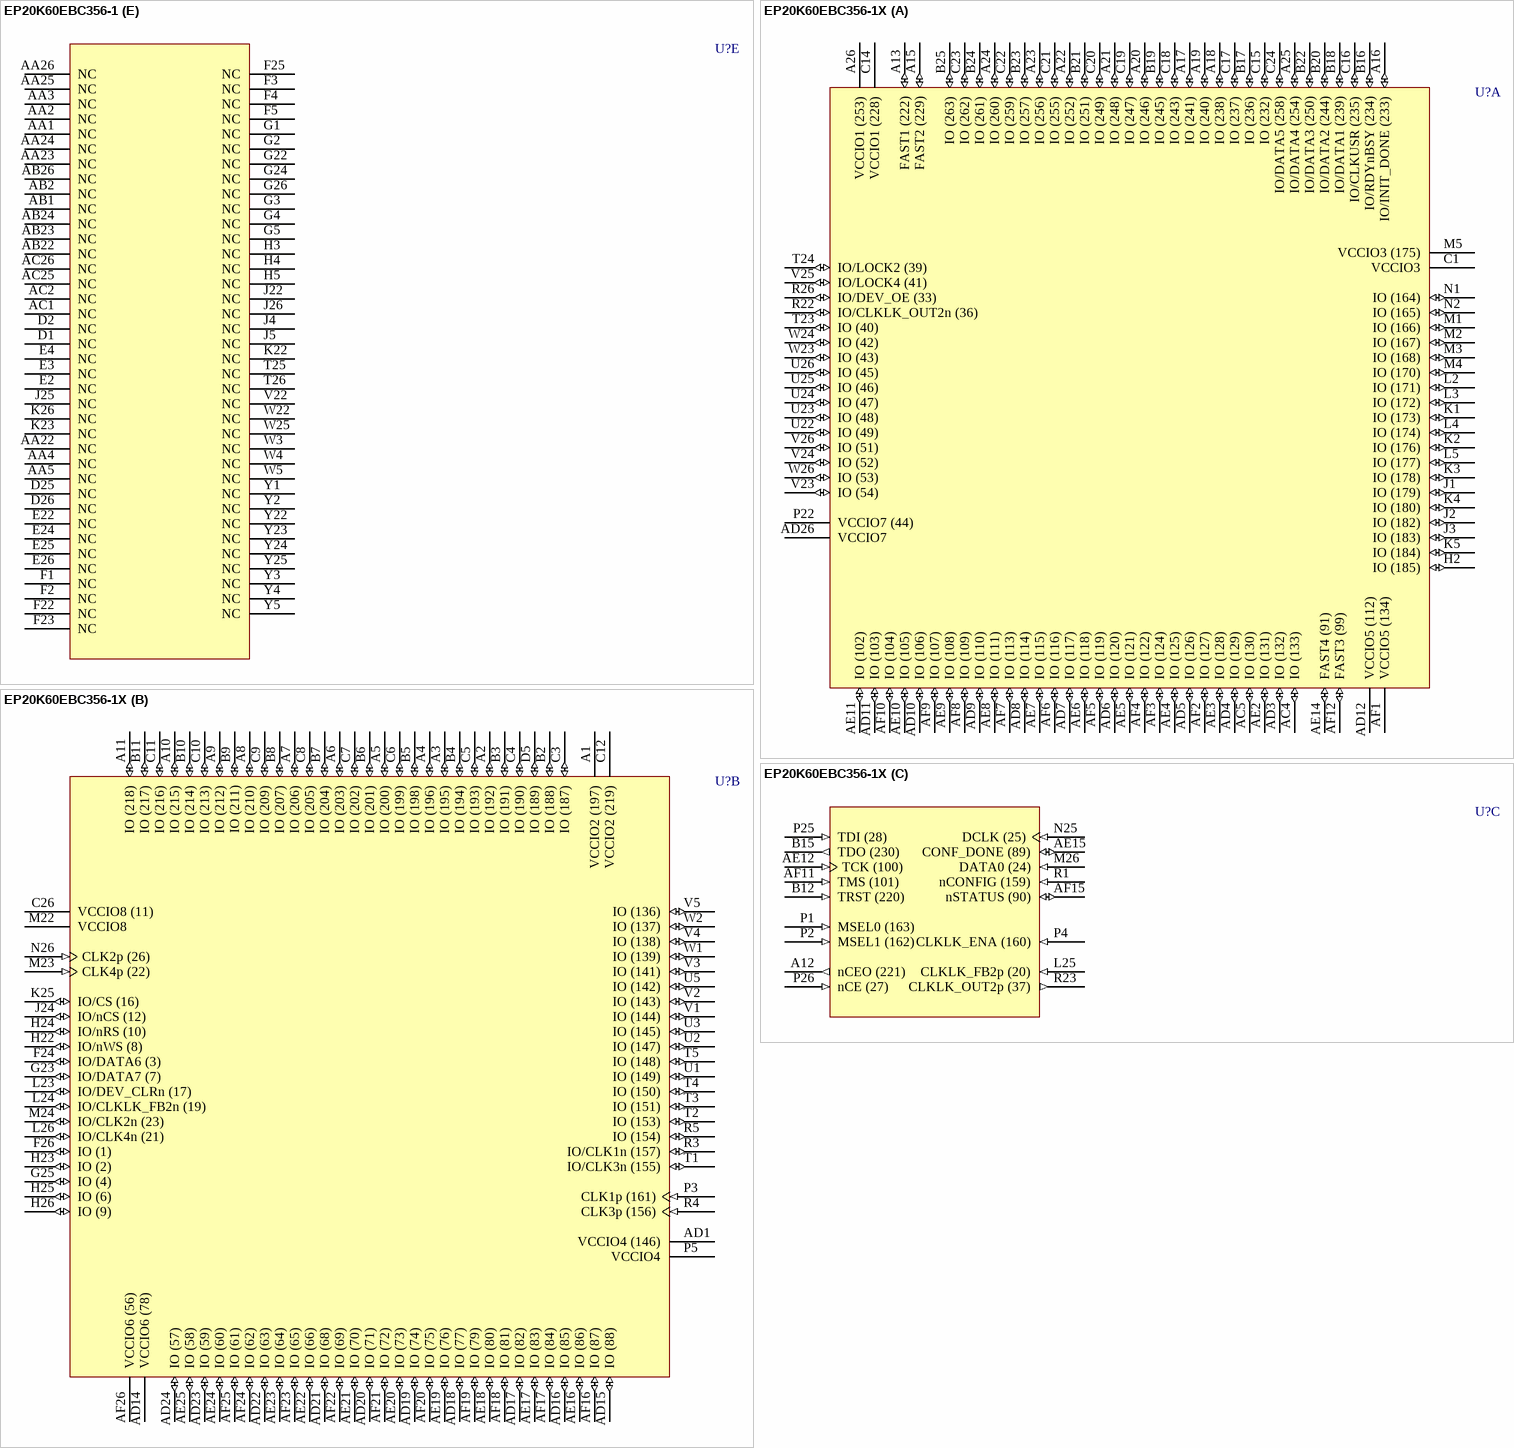
[diagram p25: symbols EP20K60EBC356-1 to EP20K60EBC356-1X]